# Altium schematic symbol library TarabusLibrary.SchLib: 307 symbols (part 2 of 4)
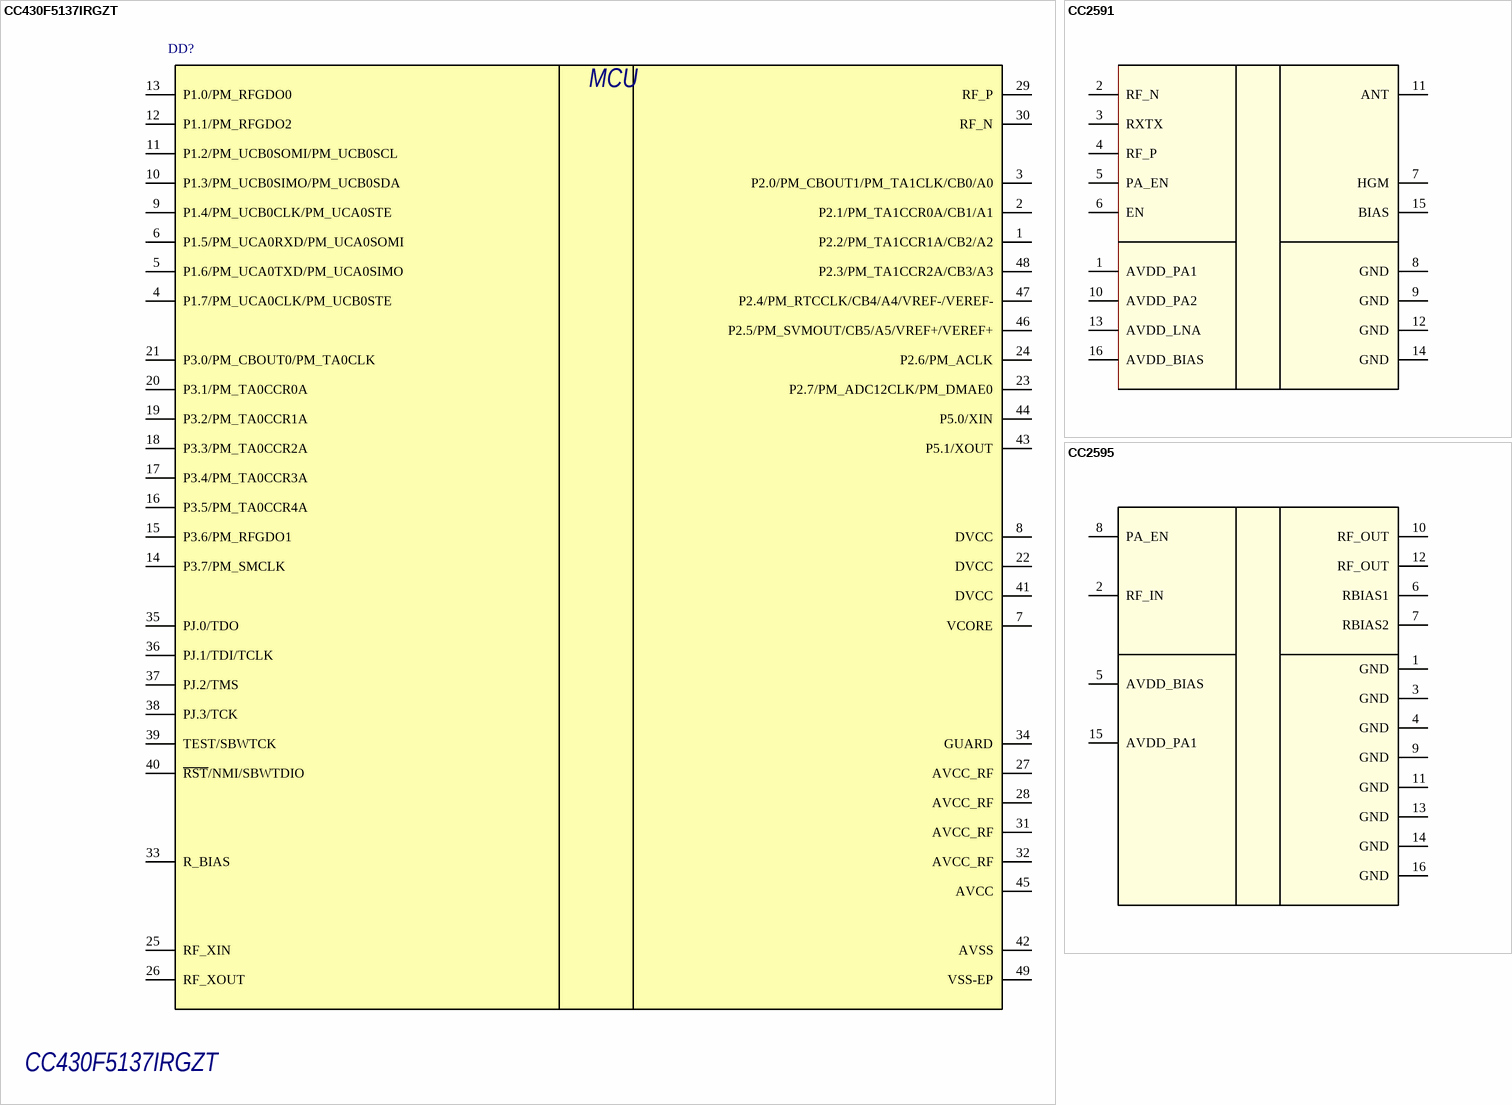
[diagram p46: symbols CC430F5137IRGZT to CC2595]

## CC2591
designator DD?
Audio Codec Control; PortComponent: True; Published: 22-Jan-2007; Publisher: Altium Limited; HelpURL: https://wiki.altium.com/display/ADOH/NanoBoard+3000+-+Audio+CODEC
footprint VQFN16
pins: 1 AVDD_PA1 (power) "Ground (0V)", 2 RF_N (power) "USB power connection", 3 RXTX (power) "Power supply (+3.3V DC) for de-coupling purposes", 4 RF_P (power) "Antenna connection 1", 5 PA_EN (power) "Antenna connection 1", 6 EN (power) "Reset for microcontroller, active low", 7 HGM (power) "Ground (0V)", 8 GND (power) "Ground (0V)", 9 GND (power) "Power supply (+3.3V DC) for de-coupling purposes", 10 AVDD_PA2 (power) "Ground (0V)", 11 ANT (power) "USB data +", 12 GND (power) "USB data -", 13 AVDD_LNA (power) "Power supply (+3.3V DC) for de-coupling purposes", 14 GND (power) "Power supply (+3.3V DC) for de-coupling purposes", 15 BIAS (power) "Power supply (+3.3V DC) for de-coupling purposes", 16 AVDD_BIAS (power) "Reference current"

## CC2595
designator DA?
2.4-GHz RF FRONT END; PortComponent: True; Published: 22-Jan-2007; Publisher: Altium Limited; HelpURL: https://wiki.altium.com/display/ADOH/NanoBoard+3000+-+Audio+CODEC
pins: 1 GND (power) "Ground (0V)", 2 RF_IN (power) "USB power connection", 3 GND (power) "Power supply (+3.3V DC) for de-coupling purposes", 4 GND (power) "Antenna connection 1", 5 AVDD_BIAS (power) "Antenna connection 1", 6 RBIAS1 (power) "Reset for microcontroller, active low", 7 RBIAS2 (power) "Ground (0V)", 8 PA_EN (power) "Ground (0V)", 9 GND (power) "Power supply (+3.3V DC) for de-coupling purposes", 10 RF_OUT (power) "Ground (0V)", 11 GND (power) "USB data +", 12 RF_OUT (power) "USB data -", 13 GND (power) "Power supply (+3.3V DC) for de-coupling purposes", 14 GND (power) "Power supply (+3.3V DC) for de-coupling purposes", 15 AVDD_PA1 (power) "Power supply (+3.3V DC) for de-coupling purposes", 16 GND (power) "Reference current"

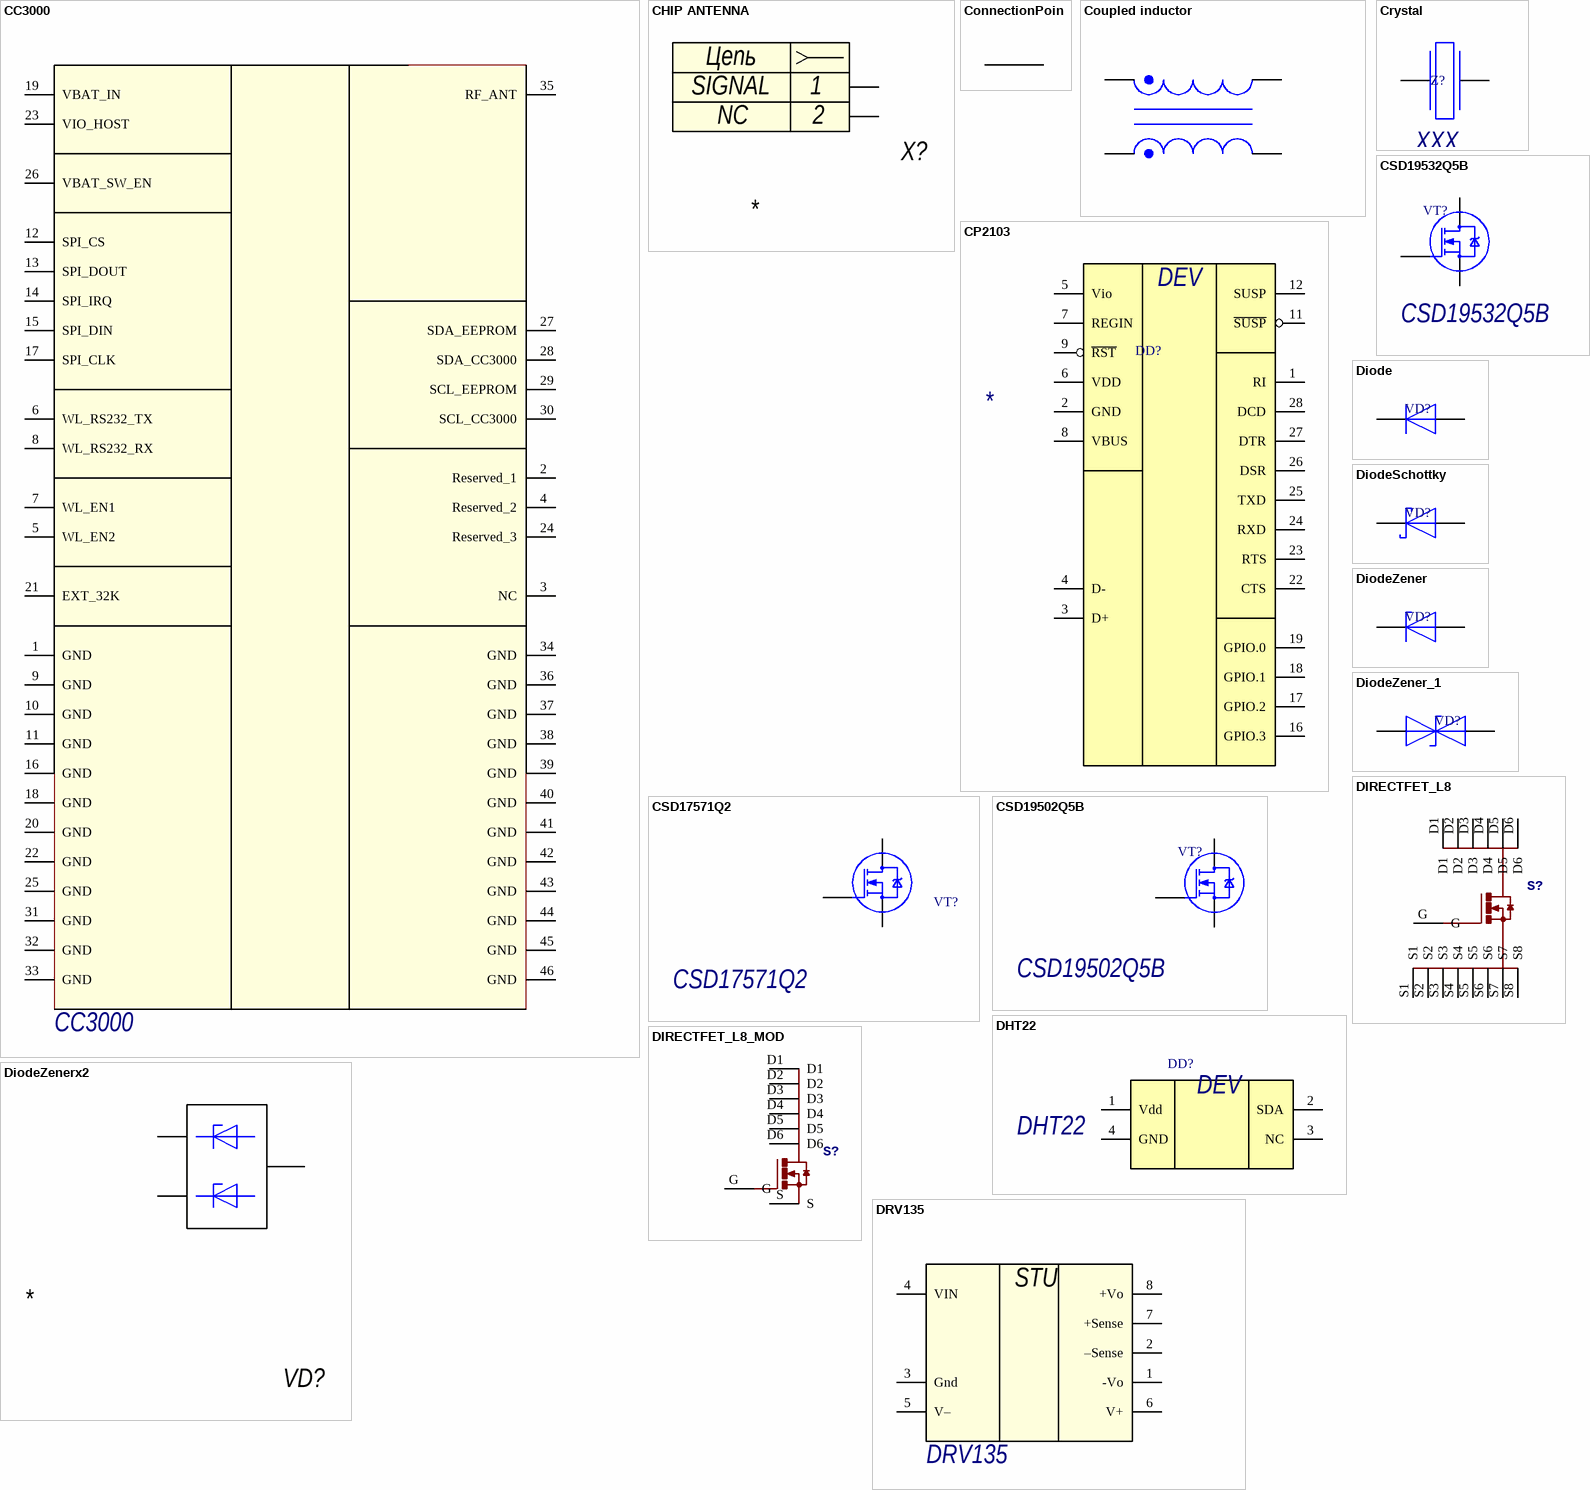
[diagram p8: symbols CC3000 to DRV135]

## CC3000
designator DD?
2.4 GHz RF SoC FOR WIRELESS DIGITAL AUDIO STREAMING; PortComponent: True; Published: 22-Jan-2007; Publisher: Altium Limited; HelpURL: https://wiki.altium.com/display/ADOH/NanoBoard+3000+-+Audio+CODEC; Name: CC3000
footprint CC3000
pins: 1 GND (power) "Ground", 2 Reserved_1 (power) "Reserved. Connect to test point.", 3 NC (power) "Not connected", 4 Reserved_2 (power) "Reserved. Connect to test point", 5 WL_EN2 (power) "Mode setting", 6 WL_RS232_TX (power) "RS232 test-mode signal (1.8-V logic). Connect to test point. Serial connection for CC3000 radio tool", 7 WL_EN1 (power) "Mode setting", 8 WL_RS232_RX (power) "RS232 test-mode signal (1.8-V logic). Connect to test point. Serial connection for CC3000 radio tool", 9 GND (power) "Ground", 10 GND (power) "Ground", 11 GND (power) "Ground", 12 SPI_CS (power) "Host interface SPI chip-select (CS)", 13 SPI_DOUT (power) "ST Host interface SPI data out", 14 SPI_IRQ (power) "Host interface SPI interrupt", 15 SPI_DIN (power) "Host interface SPI data in", 16 GND (power) "Ground", 17 SPI_CLK (power) "Host interface SPI clock", 18 GND (power) "Ground", 19 VBAT_IN (power) "Power supply input, 2.7 to 4.8 V", 20 GND (power) "Ground", 21 EXT_32K (power) "Not used. Connect to ground.", 22 GND (power) "Ground", 23 VIO_HOST (power) "VIO host supply voltage", 24 Reserved_3 (power) "Reserved. Connect to test point", 25 GND (power) "Ground", 26 VBAT_SW_EN (power) "Module enable. Connect to host GPIO.", 27 SDA_EEPROM (power) "I2C data line from EEPROM", 28 SDA_CC3000 (power) "I2C clock line from the CC3000 module", 29 SCL_EEPROM (power) "I2C clock line from EEPROM", 30 SCL_CC3000 (power) "I2C clock line from the CC3000 module", 31 GND (power) "Ground", 32 GND (power) "Ground", 33 GND (power) "Ground", 34 GND (power) "Ground", 35 RF_ANT (power) "WLAN antenna port, 50-Ω single", 36 GND (power) "Ground", 37 GND (power) "Ground", 38 GND (power) "Ground", 39 GND (power) "Ground", 40 GND (power) "Ground", 41 GND (power) "Ground", 42 GND (power) "Ground", 43 GND (power) "Ground", 44 GND (power) "Ground", 45 GND (power) "Ground", 46 GND (power)

## CHIP ANTENNA
designator X?
footprint FPRT 2.4
pins: 1, 2
text: Цепь; SIGNAL; NC

## ConnectionPoin
designator ?  (net tie, no BOM)
ConnectionPoin
footprint ConnectionPoint
pins: 1, 2

## Coupled inductor
designator L?, comment XXX
Name: Name; Value: XXX
footprint MSD1260
pins: 1, 2, 3, 4

## CP2103
designator DD?
Преобразователь интерфейсов USB-UART
footprint CP2103 (QFN, 28-Leads, Body 5,0x5,0mm (max), Pitch 0,50mm, IPC Medium Density)
pins: 1 RI, 2 GND, 3 D+, 4 D-, 5 Vio, 6 VDD, 7 REGIN, 8 VBUS, 9 ~{RST}, 11 ~{SUSP}, 12 SUSP, 16 GPIO.3, 17 GPIO.2, 18 GPIO.1, 19 GPIO.0, 22 CTS, 23 RTS, 24 RXD, 25 TXD, 26 DSR, 27 DTR, 28 DCD
text: DEV

## Crystal
designator Z?, comment XXX
Кварцевый резонатор; Value: XXX
footprint QSMD3.2x2.5_A
footprint QSMD3.2x2.5_H
footprint HC49/C
pins: 1, 2

## CSD17571Q2
designator VT?
Name: CSD17571Q2
footprint WSON-FET 6
pins: D, G, S

## CSD19502Q5B
designator VT?
Power MOSFET; Name: CSD19502Q5B
footprint PSON_8_TI
pins: D, G, S

## CSD19532Q5B
designator VT?
Power MOSFET; Name: CSD19532Q5B
footprint PSON_8_TI
pins: D, G, S

## DHT22
designator DD?
Name: DHT22
pins: 1 Vdd, 2 SDA, 3 NC, 4 GND
text: DEV

## Diode
designator VD?
Диод
footprint SOD523_A
footprint SOD523_H
pins: 1 K, 2 A

## DiodeSchottky
designator VD?
Диод Шоттки
footprint SOD123_A
footprint SOD123_H
footprint SMA_A
footprint SMA_H
footprint SOD523_A
footprint SOD523_H
pins: 1 K, 2 A

## DiodeZener
designator VD?
Стабилитрон
footprint SMA_A
footprint SMA_H
footprint SOD523_A
footprint SOD523_H
footprint SOT23-2_A
footprint SOT23-2_H
pins: 1 K, 2 A

## DiodeZener_1
designator VD?
Стабилитрон
footprint SMA_A
footprint SMA_H
footprint SOD523_A
footprint SOD523_H
footprint SOT23-2_A
footprint SOT23-2_H
footprint КД-7Е
pins: 1 K, 2 A

## DiodeZenerx2
designator VD?
Name: *
footprint SOT23-3_H
footprint SOT23-3_A
pins: 1, 2, 3

## DIRECTFET_L8
designator S?
footprint DIRECTFET_L8
pins: D1, D2, D3, D4, D5, D6, G, S1, S2, S3, S4, S5, S6, S7, S8

## DIRECTFET_L8_MOD
designator S?
footprint DIRECTFET_L8_MOD
pins: D1, D2, D3, D4, D5, D6, G, S

## DRV135
designator DD?
20 MHz MSP430 SoC with RF Core with 32 KB Flash, 4096 B SRAM and 30 GPIOs, -40 to 85 degC, 48-pin QFN (RGZ), Green (RoHS & no Sb/Br); Name: DRV135
footprint SO8_H
pins: 1 -Vo, 2 –Sense, 3 Gnd, 4 VIN, 5 V–, 6 V+, 7 +Sense, 8 +Vo
text: STU

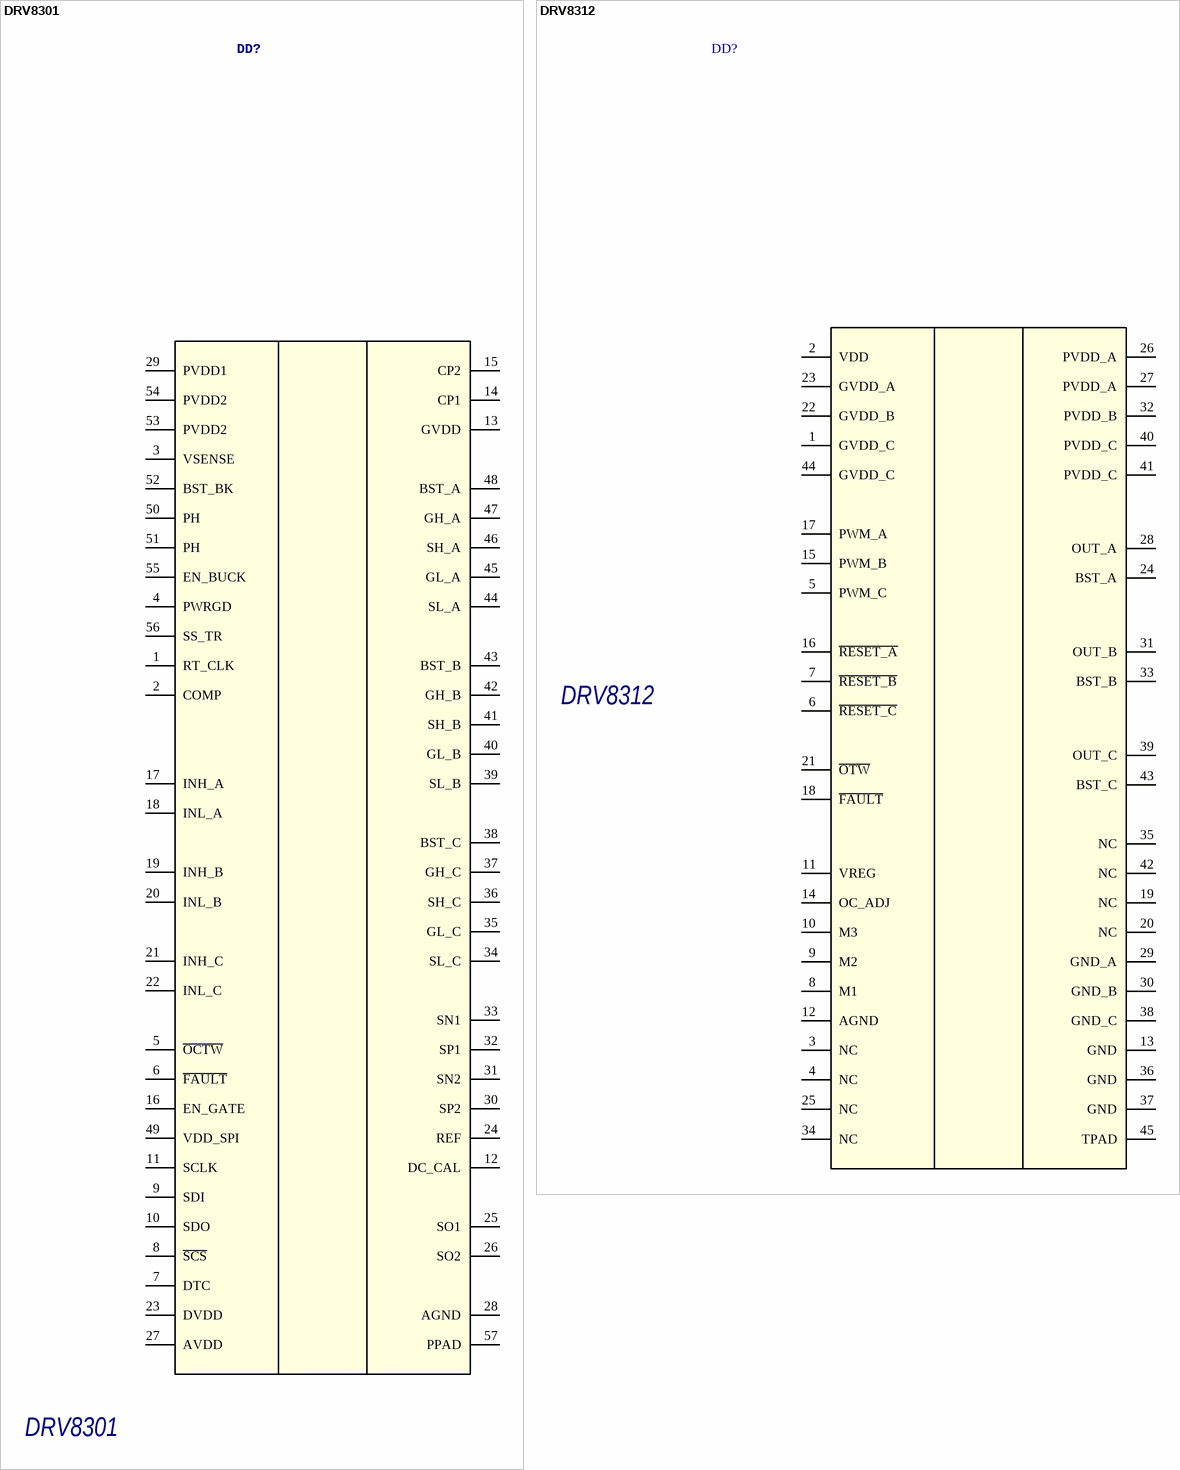
[diagram p9: symbols DRV8301 to DRV8312]

## DRV8301
designator DD?
3 Phase Integrated Motor Gate Driver by Texas Instruments; Name: DRV8301
footprint TSSOP56P
pins: 1 RT_CLK (power), 2 COMP (power), 3 VSENSE (power), 4 PWRGD (power), 5 ~{OCTW} (power), 6 ~{FAULT} (power), 7 DTC (power), 8 ~{SCS} (power), 9 SDI (power), 10 SDO (power), 11 SCLK (power), 12 DC_CAL (power), 13 GVDD (power), 14 CP1 (power), 15 CP2 (power), 16 EN_GATE (power), 17 INH_A (power), 18 INL_A (power), 19 INH_B (power), 20 INL_B (power), 21 INH_C (power), 22 INL_C (power), 23 DVDD (power), 24 REF (power), 25 SO1 (power), 26 SO2 (power), 27 AVDD (power), 28 AGND (power), 29 PVDD1 (power), 30 SP2 (power), 31 SN2 (power), 32 SP1 (power), 33 SN1 (power), 34 SL_C (power), 35 GL_C (power), 36 SH_C (power), 37 GH_C (power), 38 BST_C (power), 39 SL_B (power), 40 GL_B (power), 41 SH_B (power), 42 GH_B (power), 43 BST_B (power), 44 SL_A (power), 45 GL_A (power), 46 SH_A (power), 47 GH_A (power), 48 BST_A (power), 49 VDD_SPI (power), 50 PH (power), 51 PH (power), 52 BST_BK (power), 53 PVDD2 (power), 54 PVDD2 (power), 55 EN_BUCK (power), 56 SS_TR (power), 57 PPAD (power)

## DRV8312
designator DD?
3 Phase Integrated Motor Driver by Texas Instruments; Supplier 1: Digi-Key; Supplier Part Number 1: 296-27518-5-ND
footprint DDW44_M (TSOP, 44-Leads, Body 14x6.1mm, Pitch 0.635mm, Thermal Pad 8.3x4.2mm, IPC Low Density)
pins: 1 GVDD_C, 2 VDD, 3 NC, 4 NC, 5 PWM_C, 6 ~{RESET_C}, 7 ~{RESET_B}, 8 M1, 9 M2, 10 M3, 11 VREG, 12 AGND, 13 GND, 14 OC_ADJ, 15 PWM_B, 16 ~{RESET_A}, 17 PWM_A, 18 ~{FAULT}, 19 NC, 20 NC, 21 ~{OTW}, 22 GVDD_B, 23 GVDD_A, 24 BST_A, 25 NC, 26 PVDD_A, 27 PVDD_A, 28 OUT_A, 29 GND_A, 30 GND_B, 31 OUT_B, 32 PVDD_B, 33 BST_B, 34 NC, 35 NC, 36 GND, 37 GND, 38 GND_C, 39 OUT_C, 40 PVDD_C, 41 PVDD_C, 42 NC, 43 BST_C, 44 GVDD_C, 45 TPAD

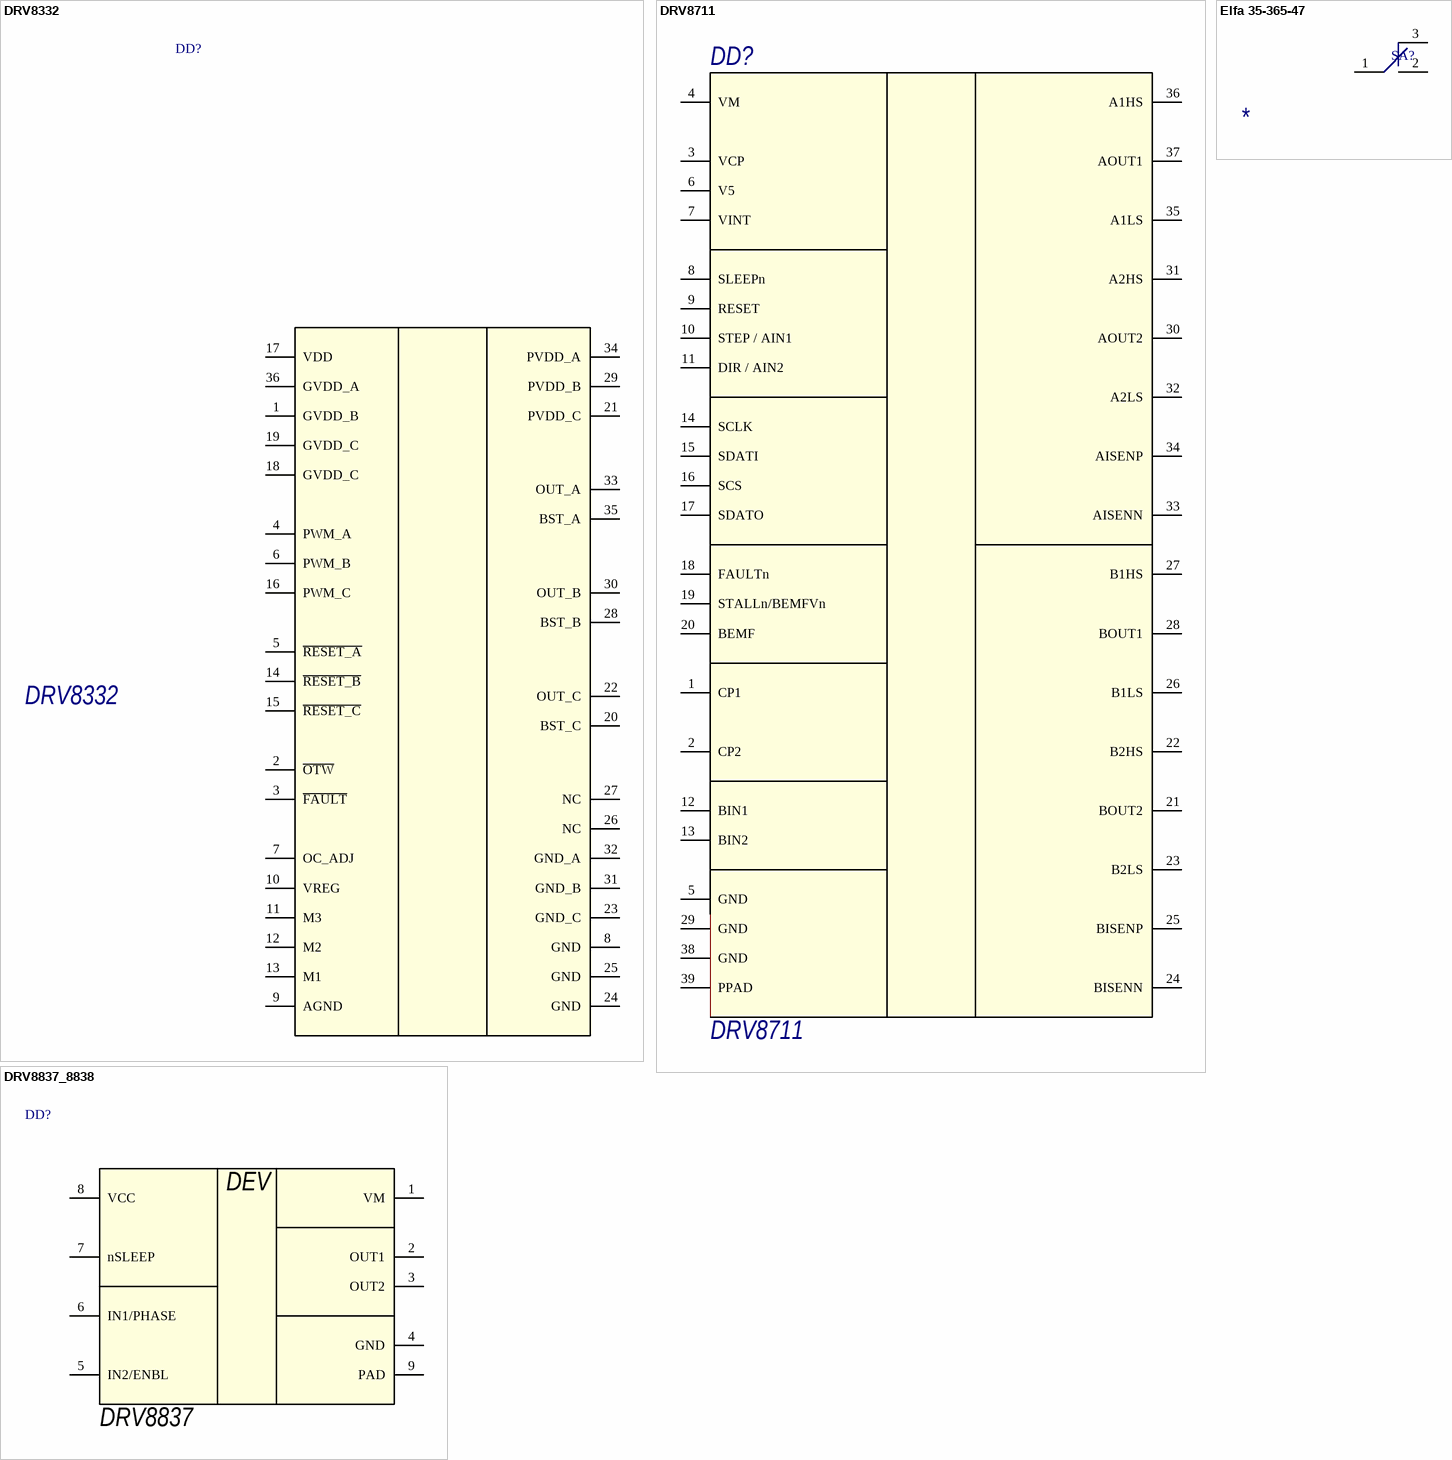
[diagram p10: symbols DRV8332 to Elfa 35-365-47]

## DRV8332
designator DD?
3 Phase Integrated Motor Driver by Texas Instruments; Supplier 1: Digi-Key; Supplier Part Number 1: 296-27518-5-ND
footprint SOP36n
footprint SOP36N_15
footprint SOP36N_WPaV
footprint SOP36N_WV
pins: 1 GVDD_B, 2 ~{OTW}, 3 ~{FAULT}, 4 PWM_A, 5 ~{RESET_A}, 6 PWM_B, 7 OC_ADJ, 8 GND, 9 AGND, 10 VREG, 11 M3, 12 M2, 13 M1, 14 ~{RESET_B}, 15 ~{RESET_C}, 16 PWM_C, 17 VDD, 18 GVDD_C, 19 GVDD_C, 20 BST_C, 21 PVDD_C, 22 OUT_C, 23 GND_C, 24 GND, 25 GND, 26 NC, 27 NC, 28 BST_B, 29 PVDD_B, 30 OUT_B, 31 GND_B, 32 GND_A, 33 OUT_A, 34 PVDD_A, 35 BST_A, 36 GVDD_A

## DRV8711
designator DD?
Stepper Motor Controller IC; Value: Value; Name: DRV8711
pins: 1 CP1, 2 CP2, 3 VCP, 4 VM, 5 GND, 6 V5, 7 VINT, 8 SLEEPn, 9 RESET, 10 STEP / AIN1, 11 DIR / AIN2, 12 BIN1, 13 BIN2, 14 SCLK, 15 SDATI, 16 SCS, 17 SDATO, 18 FAULTn, 19 STALLn/BEMFVn , 20 BEMF, 21 BOUT2, 22 B2HS, 23 B2LS, 24 BISENN, 25 BISENP, 26 B1LS, 27 B1HS, 28 BOUT1, 29 GND, 30 AOUT2, 31 A2HS, 32 A2LS, 33 AISENN, 34 AISENP, 35 A1LS, 36 A1HS, 37 AOUT1, 38 GND, 39 PPAD

## DRV8837_8838
designator DD?, comment DRV8837
LOW VOLTAGE H-BRIDGE IC; Manufacturer: Texas Instruments; MFG Part Number: Supplied; DigiKey Part #: Supplied; Size: 8QFN; Supplier 1: Digi-Key; Supplier Part Number 1: 296-34806-2-ND; Value: DRV8837
footprint PWSON8_A
footprint PWSON8_H
pins: 1 VM, 2 OUT1, 3 OUT2, 4 GND, 5 IN2/ENBL, 6 IN1/PHASE, 7 nSLEEP, 8 VCC, 9 PAD
text: DEV

## Elfa 35-365-47
designator SA?
Ползунковый переключатель
footprint Elfa 35-365-47
pins: 1, 2, 3

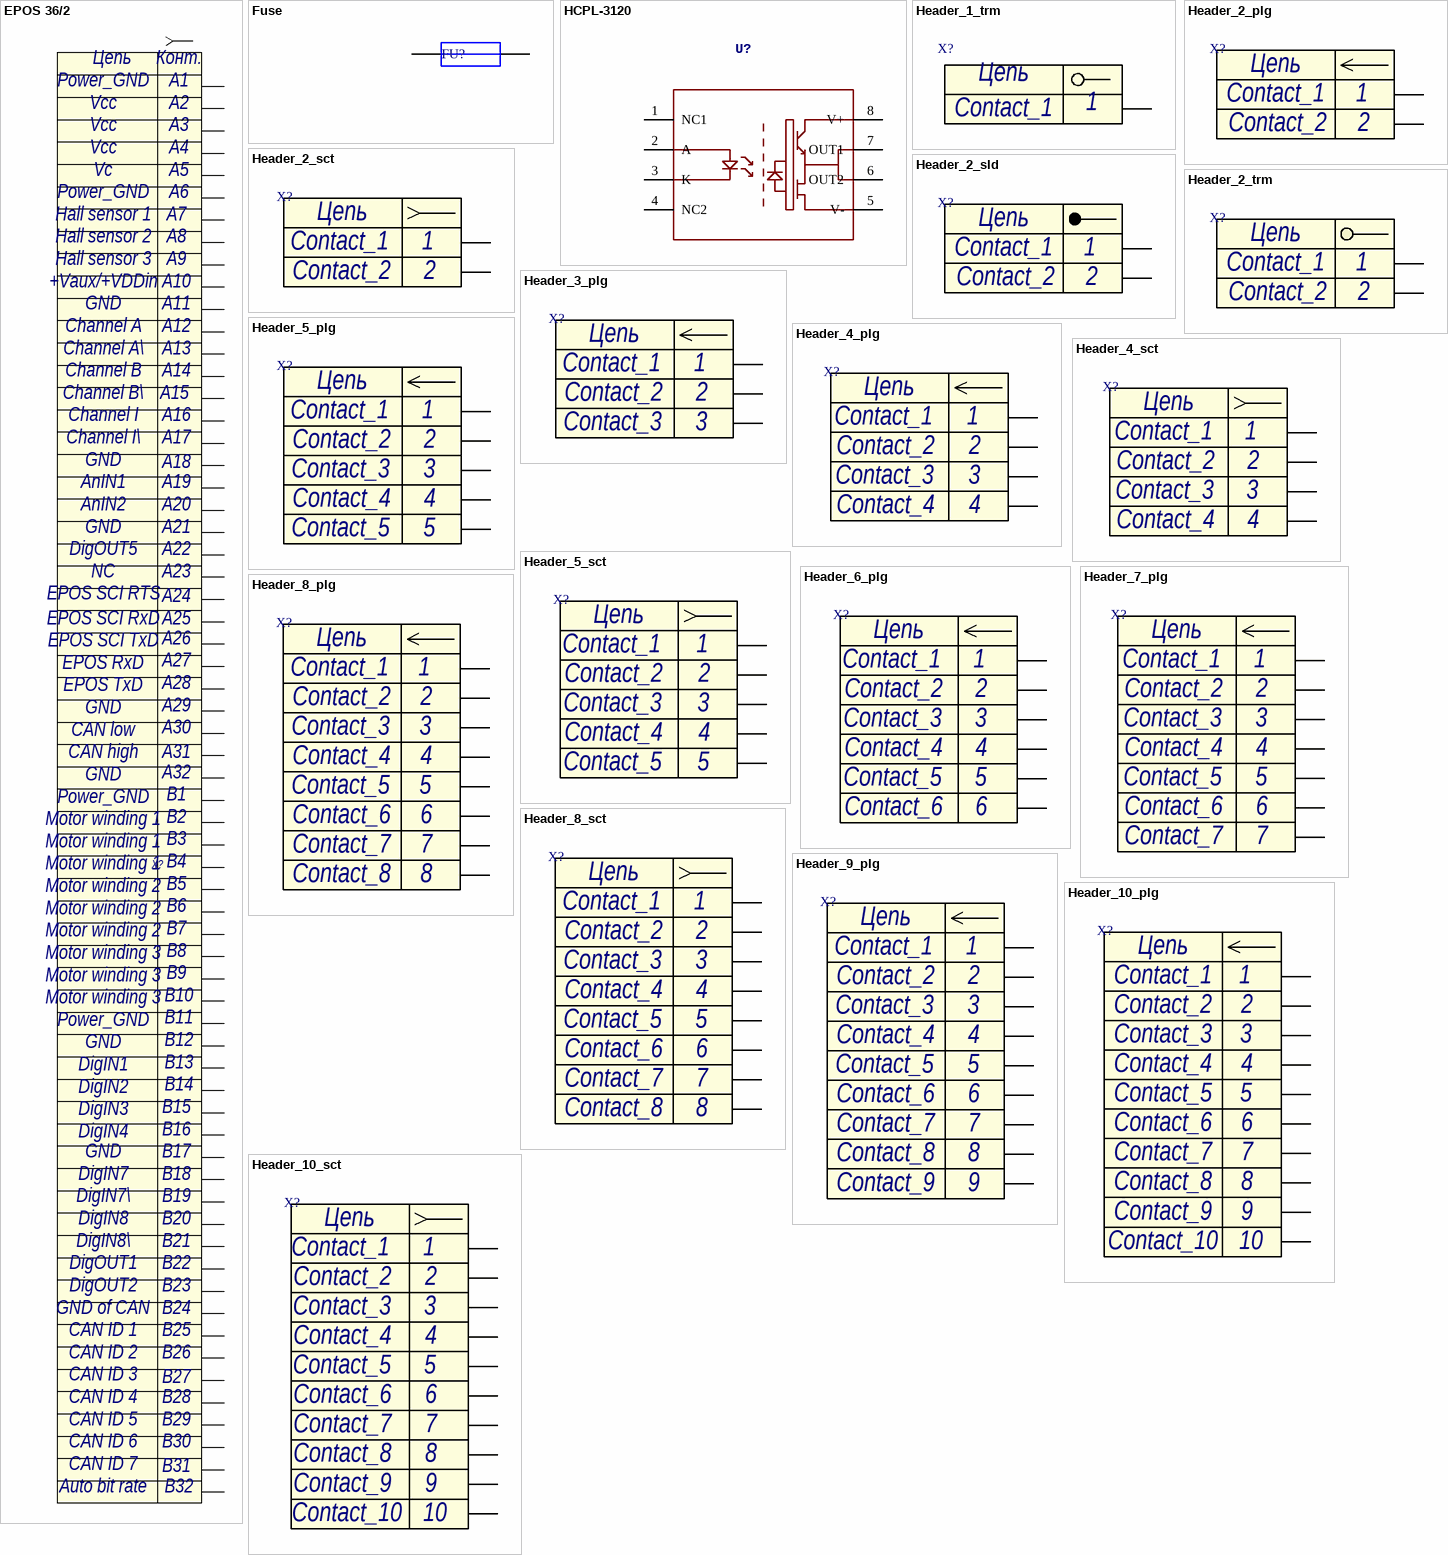
[diagram p11: symbols EPOS 36/2 to Header_10_sct]

## EPOS 36/2
designator X?
PCI 64; Contact_1: Power_GND; Contact_2: Vcc; Contact_36: Motor winding 1; Contact_39: Motor winding 2; Contact_42: Motor winding 3; Contact_49: GND; Contact_50: DigIN7; Contact_51: DigIN7\; Contact_52: DigIN8; Contact_53: DigIN8\; Contact_54: DigOUT1; Contact_55: DigOUT2; Contact_56: GND of CAN; Contact_57: CAN ID 1; Contact_58: CAN ID 2; Contact_59: CAN ID 3; Contact_60: CAN ID 4; Contact_61: CAN ID 5; Contact_62: CAN ID 6; Contact_63: CAN ID 7; Contact_64: Auto bit rate; Contact_45: DigIN1; Contact_46: DigIN2; Contact_47: DigIN3; Contact_48: DigIN4; Contact_30: CAN low; Contact_31: CAN high; Contact_19: AnIN1; Contact_20: AnIN2; Contact_22: DigOUT5; Contact_23: NC; Contact_24: EPOS SCI RTS; Contact_25: EPOS SCI RxD; Contact_26: EPOS SCI TxD; Contact_27: EPOS RxD; Contact_28: EPOS TxD; Contact_17: Channel I\; Contact_10: +Vaux/+VDDin; Contact_12: Channel A; Contact_13: Channel A\; Contact_14: Channel B; Contact_15: Channel B\; Contact_16: Channel I; Contact_5: Vc; Contact_7: Hall sensor 1; Contact_8: Hall sensor 2; Contact_9: Hall sensor 3; Contact_3: Vcc; Contact_35: Motor winding 1; Contact_38: Motor winding 2; Contact_41: Motor winding 3; Contact_43: Power_GND; Contact_44: GND; Contact_32: GND; Contact_33: Power_GND; Contact_34: Motor winding 1; Contact_37: Motor winding 2; Contact_40: Motor winding 3; Contact_29: GND; Contact_18: GND; Contact_21: GND; Contact_11: GND; Contact_6: Power_GND; Contact_4: Vcc
footprint PCI 64
pins: A1 1, A2 2, A3 3, A4 4, A5 5, A6 6, A7 5, A8 5, A9 5, A10 5, A11 5, A12 5, A13 5, A14 5, A15 15, A16 5, A17 5, A18 5, A19 5, A20 5, A21 5, A22 5, A23 5, A24 5, A25 5, A26, A27 5, A28 5, A29 5, A30 5, A31 5, A32 5, B1 5, B2 5, B3 1, B4 2, B5 3, B6 4, B7 5, B8 6, B9 5, B10 5, B11 5, B12 5, B13 5, B14 5, B15 5, B16 5, B17 15, B18 5, B19 5, B20 5, B21 5, B22 5, B23 5, B24 5, B25 5, B26 5, B27 5, B28 A26, B29 5, B30 5, B31 5, B32 5
text: Цепь; Конт.

## Fuse
designator FU?
Предохранитель; Value: XXX
footprint R0805_A
footprint R0805_H
footprint R0603_A
footprint R0402_H
pins: 1, 2

## HCPL-3120
designator U?
footprint 8DIP
pins: 1 NC1, 2 A, 3 K, 4 NC2, 5 V-, 6 OUT2, 7 OUT1, 8 V+

## Header_1_trm
designator X?
Разъем - 1 конт. клемма; Contact_1: Contact_1
footprint 0.25-STANDOFF
footprint 0.8_1.4x1.4_square
pins: 1
text: Цепь

## Header_2_plg
designator X?
Разъем - 2 конт. вилка; Contact_1: Contact_1; Contact_2: Contact_2
footprint MOLEX_picoblade_2
footprint MW-2M
footprint MW-2MR
footprint PWL-2R
footprint Terminal_2.54-2
footprint PBS2-2
footprint 2_PIN
footprint 300-021-12
footprint 308-021-14
pins: 1, 2
text: Цепь

## Header_2_sct
designator X?
Разъем - 2 конт. розетка; Contact_1: Contact_1; Contact_2: Contact_2
footprint MOLEX_picoblade_2
footprint MW-2M
footprint MW-2MR
footprint PWL-2R
footprint Terminal_2.54-2
footprint PBS2-2
footprint SMA-JR
footprint Nokia_charge
footprint 2_PIN
footprint 300-021-12
pins: 1, 2
text: Цепь

## Header_2_sld
designator X?
Разъем - 2 конт. пайка; Contact_1: Contact_1; Contact_2: Contact_2
footprint MOLEX_picoblade_2
footprint MW-2M
footprint MW-2MR
footprint PWL-2R
footprint Terminal_2.54-2
footprint PBS2-2
footprint 2_PIN
footprint 300-021-12
pins: 1, 2
text: Цепь

## Header_2_trm
designator X?
Разъем - 2 конт. клемма; Contact_1: Contact_1; Contact_2: Contact_2
footprint MOLEX_picoblade_2
footprint MW-2M
footprint MW-2MR
footprint PWL-2R
footprint Terminal_2.54-2
footprint PBS2-2
footprint 2_PIN
footprint 300-021-12
pins: 1, 2
text: Цепь

## Header_3_plg
designator X?
Разъем - 3 конт. вилка; Contact_1: Contact_1; Contact_2: Contact_2; Contact_3: Contact_3
footprint PLS2-3
footprint MOLEX_picoblade_3
footprint MOLEX_picoblade_3R
footprint PWL-3R
footprint Terminal_2.54-3
footprint 3_PIN
footprint 300-031-12
pins: 1, 2, 3
text: Цепь

## Header_4_plg
designator X?
Разъем - 4 конт. вилка; Contact_1: Contact_1; Contact_2: Contact_2; Contact_3: Contact_3; Contact_4: Contact_4
footprint MOLEX_picoblade_4
footprint MOLEX_picoblade_4R
footprint MW-4M
footprint MW-4MR
footprint 300-041-12
pins: 1, 2, 3, 4
text: Цепь

## Header_4_sct
designator X?
Разъем - 4 конт. розетка; Contact_1: Contact_1; Contact_2: Contact_2; Contact_3: Contact_3; Contact_4: Contact_4
footprint MOLEX_picoblade_4
footprint MOLEX_picoblade_4R
footprint MW-4MR
footprint MW-4M
pins: 1, 2, 3, 4
text: Цепь

## Header_5_plg
designator X?
Разъем - 5 конт. вилка; Contact_1: Contact_1; Contact_2: Contact_2; Contact_3: Contact_3; Contact_4: Contact_4; Contact_5: Contact_5
footprint MOLEX_picoblade_5
footprint MW-5M
footprint MW-5MR
footprint PLS2-5
footprint USB-Mini DIP
footprint USB-Mini
footprint 5_PIN
pins: 1, 2, 3, 4, 5
text: Цепь

## Header_5_sct
designator X?
Разъем - 5 конт. розетка; Contact_1: Contact_1; Contact_2: Contact_2; Contact_3: Contact_3; Contact_4: Contact_4; Contact_5: Contact_5
footprint MOLEX_picoblade_5
footprint MW-5M
footprint MW-5MR
footprint 5_PIN
pins: 1, 2, 3, 4, 5
text: Цепь

## Header_6_plg
designator X?
Разъем - 6 конт. вилка; Contact_1: Contact_1; Contact_2: Contact_2; Contact_3: Contact_3; Contact_4: Contact_4; Contact_5: Contact_5; Contact_6: Contact_6
footprint MOLEX_picoblade_6
footprint MW-6M
footprint 300-061-12
pins: 1, 2, 3, 4, 5, 6
text: Цепь

## Header_7_plg
designator X?
Разъем - 7 конт. вилка; Contact_1: Contact_1; Contact_2: Contact_2; Contact_3: Contact_3; Contact_4: Contact_4; Contact_5: Contact_5; Contact_6: Contact_6; Contact_7: Contact_7
footprint MOLEX_picoblade_7
pins: 1, 2, 3, 4, 5, 6, 7
text: Цепь

## Header_8_plg
designator X?
Разъем - 8 конт. вилка; Contact_1: Contact_1; Contact_2: Contact_2; Contact_3: Contact_3; Contact_4: Contact_4; Contact_5: Contact_5; Contact_6: Contact_6; Contact_7: Contact_7; Contact_8: Contact_8
footprint MOLEX_picoblade_8
pins: 1, 2, 3, 4, 5, 6, 7, 8
text: Цепь

## Header_8_sct
designator X?
Разъем - 8 конт. розетка; Contact_1: Contact_1; Contact_2: Contact_2; Contact_3: Contact_3; Contact_4: Contact_4; Contact_5: Contact_5; Contact_6: Contact_6; Contact_7: Contact_7; Contact_8: Contact_8
footprint MOLEX_picoblade_8
pins: 1, 2, 3, 4, 5, 6, 7, 8
text: Цепь

## Header_9_plg
designator X?
Разъем - 9 конт. вилка; Contact_1: Contact_1; Contact_2: Contact_2; Contact_3: Contact_3; Contact_4: Contact_4; Contact_5: Contact_5; Contact_6: Contact_6; Contact_7: Contact_7; Contact_8: Contact_8; Contact_9: Contact_9
pins: 1, 2, 3, 4, 5, 6, 7, 8, 9
text: Цепь

## Header_10_plg
designator X?
Разъем - 10 конт. вилка; Contact_1: Contact_1; Contact_2: Contact_2; Contact_3: Contact_3; Contact_4: Contact_4; Contact_5: Contact_5; Contact_6: Contact_6; Contact_7: Contact_7; Contact_8: Contact_8; Contact_9: Contact_9; Contact_10: Contact_10
footprint PLLD1.27-10S (PLDD-1.27)
pins: 1, 2, 3, 4, 5, 6, 7, 8, 9, 10
text: Цепь

## Header_10_sct
designator X?
Разъем - 10 конт. розетка; Contact_1: Contact_1; Contact_2: Contact_2; Contact_3: Contact_3; Contact_4: Contact_4; Contact_5: Contact_5; Contact_6: Contact_6; Contact_7: Contact_7; Contact_8: Contact_8; Contact_9: Contact_9; Contact_10: Contact_10
footprint MOLEX_52207-1085
footprint PBS2-10
footprint PBS2-10S
pins: 1, 2, 3, 4, 5, 6, 7, 8, 9, 10
text: Цепь

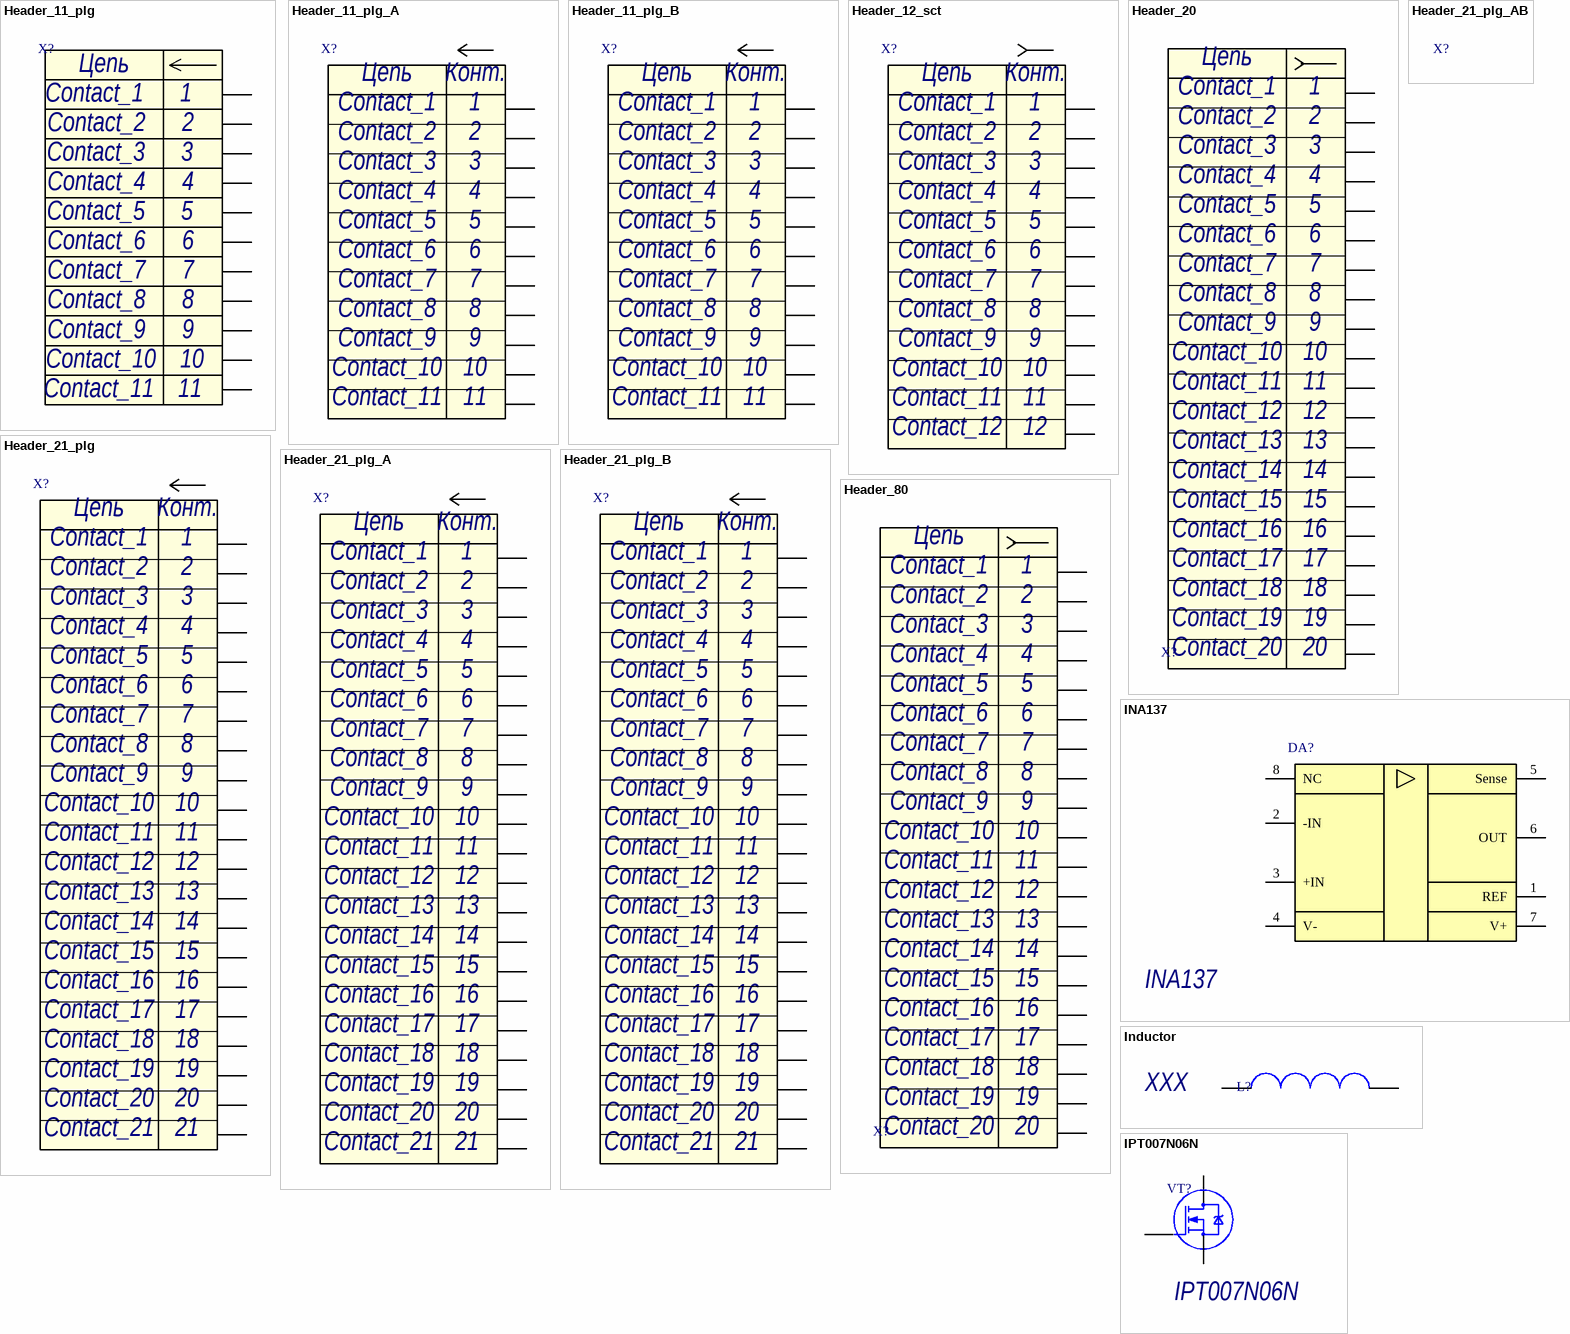
[diagram p12: symbols Header_11_plg to IPT007N06N]

## Header_11_plg
designator X?
Разъем - 11 конт. вилка; Contact_1: Contact_1; Contact_2: Contact_2; Contact_3: Contact_3; Contact_4: Contact_4; Contact_5: Contact_5; Contact_6: Contact_6; Contact_7: Contact_7; Contact_8: Contact_8; Contact_9: Contact_9; Contact_10: Contact_10; Contact_11: Contact_11
pins: 1, 2, 3, 4, 5, 6, 7, 8, 9, 10, 11
text: Цепь

## Header_11_plg_A
designator X?
Разъем - 11 конт. вилка; Contact_1: Contact_1; Contact_2: Contact_2; Contact_3: Contact_3; Contact_4: Contact_4; Contact_5: Contact_5; Contact_6: Contact_6; Contact_7: Contact_7; Contact_8: Contact_8; Contact_9: Contact_9; Contact_10: Contact_10; Contact_11: Contact_11
pins: A1 1, A2 2, A3 3, A4 4, A5 5, A6 6, A7 7, A8 8, A9 9, A10 10, A11 11
text: Цепь; Конт.

## Header_11_plg_B
designator X?
Разъем - 11 конт. вилка; Contact_1: Contact_1; Contact_2: Contact_2; Contact_3: Contact_3; Contact_4: Contact_4; Contact_5: Contact_5; Contact_6: Contact_6; Contact_7: Contact_7; Contact_8: Contact_8; Contact_9: Contact_9; Contact_10: Contact_10; Contact_11: Contact_11
pins: B1 1, B2 2, B3 3, B4 4, B5 5, B6 6, B7 7, B8 8, B9 9, B10 10, B11 11
text: Цепь; Конт.

## Header_12_sct
designator X?
Разъем - 12 конт. розетка; Contact_1: Contact_1; Contact_2: Contact_2; Contact_3: Contact_3; Contact_4: Contact_4; Contact_5: Contact_5; Contact_6: Contact_6; Contact_7: Contact_7; Contact_8: Contact_8; Contact_9: Contact_9; Contact_10: Contact_10; Contact_11: Contact_11; Contact_12: Contact_12
footprint PBS2-12
footprint PBS2-12S
pins: 1, 2, 3, 4, 5, 6, 7, 8, 9, 10, 11, 12
text: Цепь; Конт.

## Header_20
designator X?
Разъем - 20 конт. мамка; Contact_1: Contact_1; Contact_2: Contact_2; Contact_3: Contact_3; Contact_4: Contact_4; Contact_5: Contact_5; Contact_6: Contact_6; Contact_7: Contact_7; Contact_8: Contact_8; Contact_9: Contact_9; Contact_10: Contact_10; Contact_11: Contact_11; Contact_12: Contact_12; Contact_13: Contact_13; Contact_14: Contact_14; Contact_15: Contact_15; Contact_16: Contact_16; Contact_17: Contact_17; Contact_18: Contact_18; Contact_19: Contact_19; Contact_20: Contact_20
footprint M50-430 Socket 2x10
footprint M50-490 Socket 2x10
pins: 1, 2, 3, 4, 5, 6, 7, 8, 9, 10, 11, 12, 13, 14, 15, 16, 17, 18, 19, 20
text: Цепь

## Header_21_plg
designator X?
Разъем - 21 конт. вилка; Contact_1: Contact_1; Contact_2: Contact_2; Contact_3: Contact_3; Contact_4: Contact_4; Contact_5: Contact_5; Contact_6: Contact_6; Contact_7: Contact_7; Contact_8: Contact_8; Contact_9: Contact_9; Contact_10: Contact_10; Contact_11: Contact_11; Contact_12: Contact_12; Contact_13: Contact_13; Contact_14: Contact_14; Contact_15: Contact_15; Contact_16: Contact_16; Contact_17: Contact_17; Contact_18: Contact_18; Contact_19: Contact_19; Contact_20: Contact_20; Contact_21: Contact_21
footprint PCI_21
pins: 1, 2, 3, 4, 5, 6, 7, 8, 9, 10, 11, 12, 13, 14, 15, 16, 17, 18, 19, 20, 21
text: Цепь; Конт.

## Header_21_plg_A
designator X?
Разъем - 21 конт. вилка; Contact_1: Contact_1; Contact_2: Contact_2; Contact_3: Contact_3; Contact_4: Contact_4; Contact_5: Contact_5; Contact_6: Contact_6; Contact_7: Contact_7; Contact_8: Contact_8; Contact_9: Contact_9; Contact_10: Contact_10; Contact_11: Contact_11; Contact_12: Contact_12; Contact_13: Contact_13; Contact_14: Contact_14; Contact_15: Contact_15; Contact_16: Contact_16; Contact_17: Contact_17; Contact_18: Contact_18; Contact_19: Contact_19; Contact_20: Contact_20; Contact_21: Contact_21
footprint PCI_21
pins: A1 1, A2 2, A3 3, A4 4, A5 5, A6 6, A7 7, A8 8, A9 9, A10 10, A11 11, A12 12, A13 13, A14 14, A15 15, A16 16, A17 17, A18 18, A19 19, A20 20, A21 21
text: Цепь; Конт.

## Header_21_plg_AB
designator X?
Разъем - 21 конт. вилка; Contact_1: Contact_1; Contact_2: Contact_2; Contact_3: Contact_3; Contact_4: Contact_4; Contact_5: Contact_5; Contact_6: Contact_6; Contact_7: Contact_7; Contact_8: Contact_8; Contact_9: Contact_9; Contact_10: Contact_10; Contact_11: Contact_11; Contact_12: Contact_12; Contact_13: Contact_13; Contact_14: Contact_14; Contact_15: Contact_15; Contact_16: Contact_16; Contact_17: Contact_17; Contact_18: Contact_18; Contact_19: Contact_19; Contact_20: Contact_20; Contact_21: Contact_21
footprint PCI_32

## Header_21_plg_B
designator X?
Разъем - 21 конт. вилка; Contact_1: Contact_1; Contact_2: Contact_2; Contact_3: Contact_3; Contact_4: Contact_4; Contact_5: Contact_5; Contact_6: Contact_6; Contact_7: Contact_7; Contact_8: Contact_8; Contact_9: Contact_9; Contact_10: Contact_10; Contact_11: Contact_11; Contact_12: Contact_12; Contact_13: Contact_13; Contact_14: Contact_14; Contact_15: Contact_15; Contact_16: Contact_16; Contact_17: Contact_17; Contact_18: Contact_18; Contact_19: Contact_19; Contact_20: Contact_20; Contact_21: Contact_21
footprint PCI_21
pins: B1 1, B2 2, B3 3, B4 4, B5 5, B6 6, B7 7, B8 8, B9 9, B10 10, B11 11, B12 12, B13 13, B14 14, B15 15, B16 16, B17 17, B18 18, B19 19, B20 20, B21 21
text: Цепь; Конт.

## Header_80
designator X?
Разъем - 80 конт. мамка; Contact_1: Contact_1; Contact_2: Contact_2; Contact_3: Contact_3; Contact_4: Contact_4; Contact_5: Contact_5; Contact_6: Contact_6; Contact_7: Contact_7; Contact_8: Contact_8; Contact_9: Contact_9; Contact_10: Contact_10; Contact_11: Contact_11; Contact_12: Contact_12; Contact_13: Contact_13; Contact_14: Contact_14; Contact_15: Contact_15; Contact_16: Contact_16; Contact_17: Contact_17; Contact_18: Contact_18; Contact_19: Contact_19; Contact_20: Contact_20
footprint M50-430 Socket 2x10
footprint M50-490 Socket 2x10
pins: 1, 2, 3, 4, 5, 6, 7, 8, 9, 10, 11, 12, 13, 14, 15, 16, 17, 18, 19, 20
text: Цепь

## INA137
designator DA?
audio receiver; Name: INA137
footprint SO8_H
footprint SO8_A
pins: 1 REF, 2 -IN, 3 +IN, 4 V-, 5 Sense, 6 OUT, 7 V+, 8 NC

## Inductor
designator L?, comment XXX
Катушка индуктивности; Value: XXX
footprint L0603_A
footprint L0603_H
footprint CDRH4D28C_A
footprint CDRH4D28C_H
footprint SRU1048_A
footprint SRU1048_H
footprint RCR-875D
footprint CDRH3D16
footprint L0402_A
footprint CDRH2D18/HP
footprint L0805_A
footprint L1210_A
footprint XFL4020
pins: 1, 2

## IPT007N06N
designator VT?
HEXFET Power MOSFETs Discrete N-Channel; Name: IPT007N06N
footprint PG-HSOF-8-1
pins: 1 G, 2 S, 3 S, 4 S, 5 S, 6 S, 7 S, 8 S, 9 D

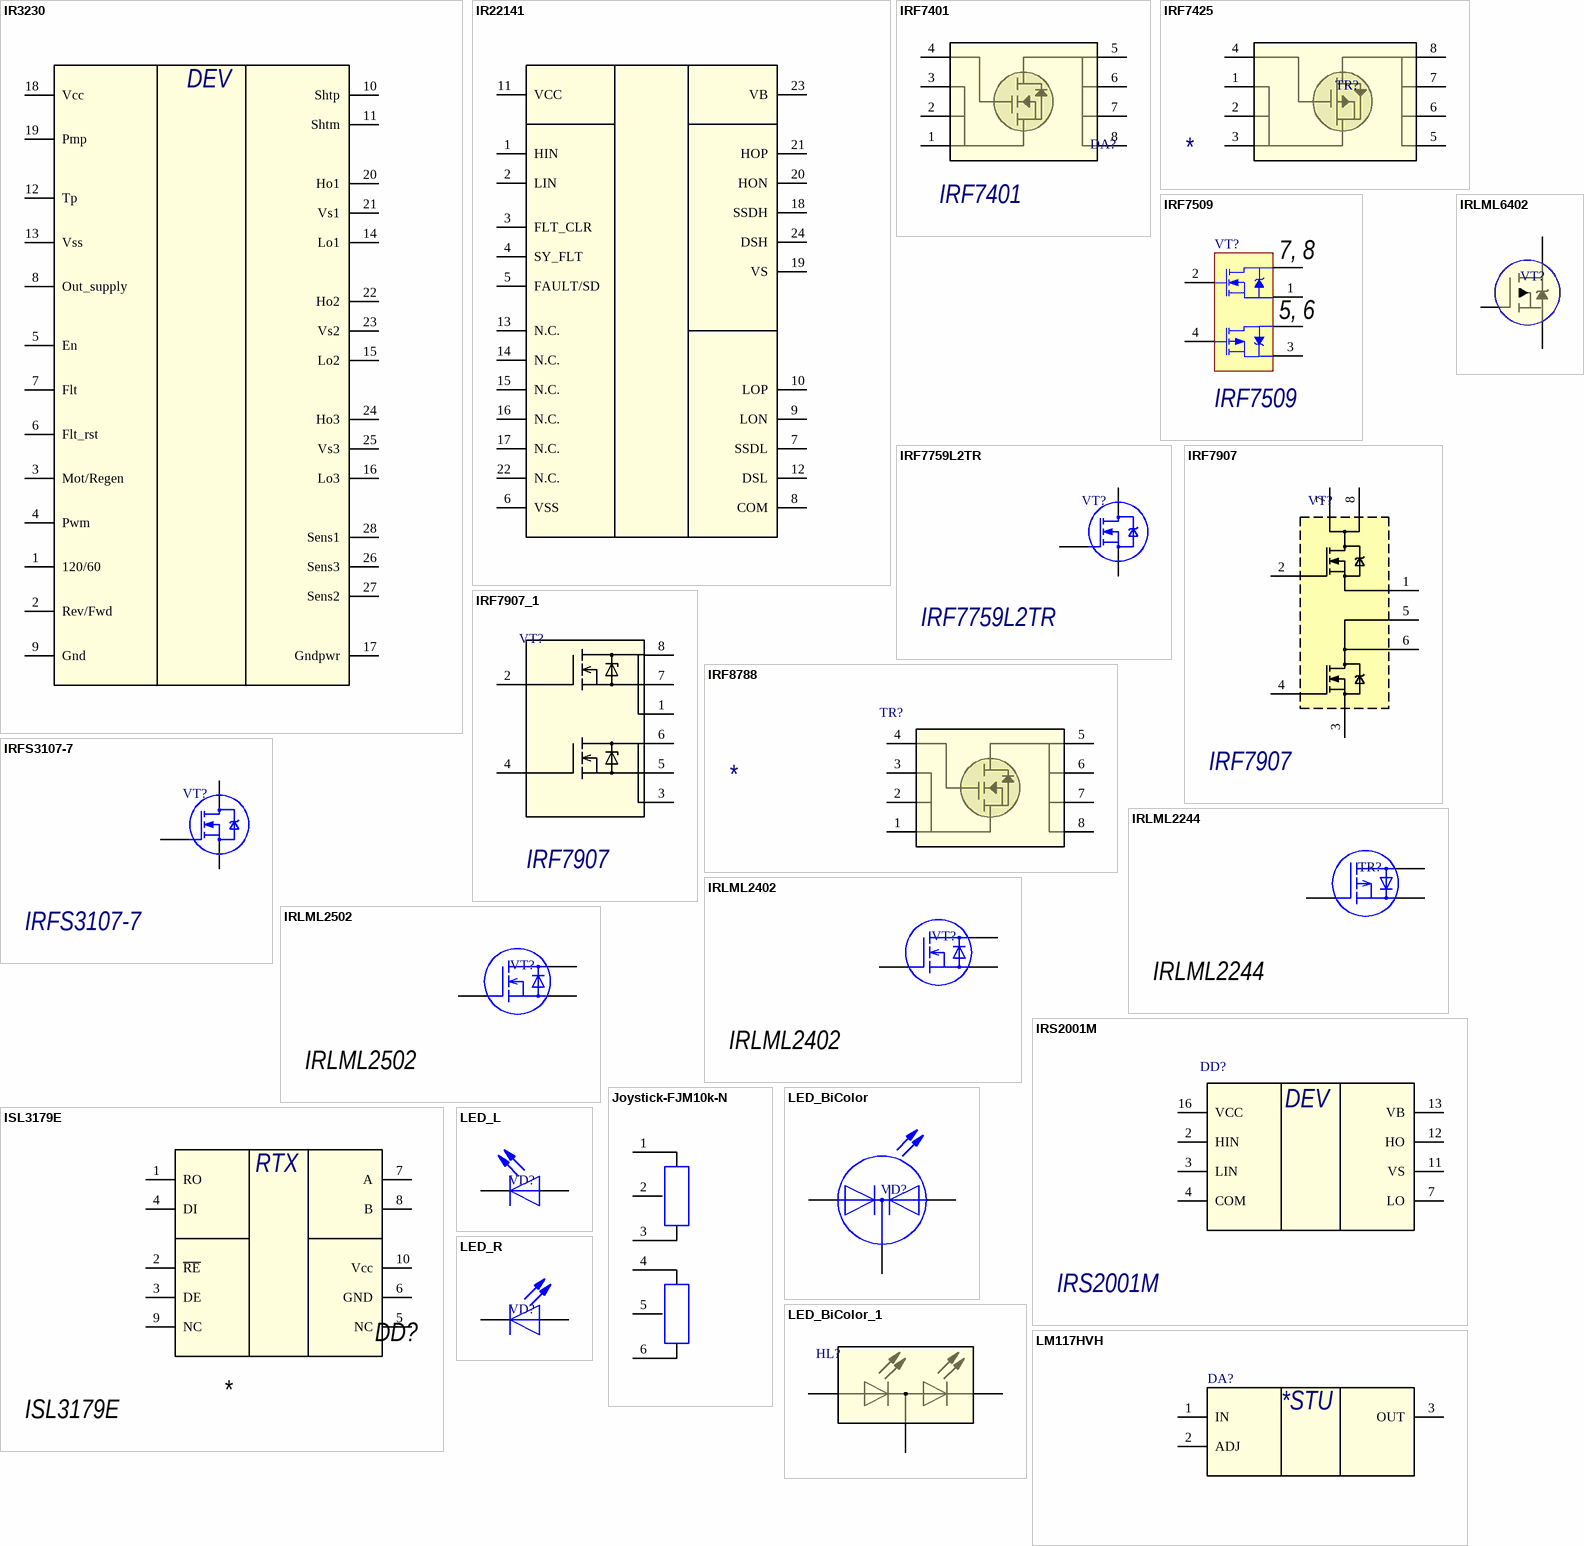
[diagram p13: symbols IR3230 to LM117HVH]

## IR3230
designator DD?
Three-phase brushless DC motor   controller/driver with many integrated features; Name: IR3230
footprint TI-RGZ48-4100X4100TP_N (QFN, 48-Leads, Body 7x7mm, Pitch 0.5mm, Thermal Pad 4.1x4.1mm, IPC Medium Density)
pins: 1 120/60, 2 Rev/Fwd, 3 Mot/Regen, 4 Pwm, 5 En, 6 Flt_rst, 7 Flt, 8 Out_supply, 9 Gnd, 10 Shtp, 11 Shtm, 12 Tp, 13 Vss, 14 Lo1, 15 Lo2, 16 Lo3, 17 Gndpwr, 18 Vcc, 19 Pmp, 20 Ho1, 21 Vs1, 22 Ho2, 23 Vs2, 24 Ho3, 25 Vs3, 26 Sens3, 27 Sens2, 28 Sens1
text: DEV

## IR22141
designator DD?, comment IR22141SSPBF
Gate Driver; Manufacturer: International Rectifier; PackageDescription: 24 Pin Plastic Flat Pack; Mounting Technology: Surface Mount; PartNumber: IR22141SSPBF
footprint SSOP24
pins: 1 HIN (power) "Enable for buck3. Float to enable. Can use this pin to adjust the input under-voltage lockout of buck3 with a resistor 1 EN3 divider", 2 LIN (power) "An open drain output, asserts low if output voltage of any buck beyond regulation range due to thermal shutdown,  over-current, under-voltage or ENx shut down.", 3 FLT_CLR (power) "Open drain power failure output signal.", 4 SY_FLT (power) "When high, an automatic power-up/power-down sequence is provided according to states of EN1, EN2 and EN3  pins.", 5 FAULT/SD (power) "Internal LDO for gate driver and internal controller. Connect a 1µF capacitor from the pin to power ground", 6 VSS (power) "Feedback Kelvin sensing pin for buck2 output voltage. Connect this pin to buck2 resistor divider.", 7 SSDL (power) "Error amplifier output and Loop compensation pin for buck2. Connect a series resistor and capacitor to compensate the control loop of buck2 with peak current PWM mode.", 8 COM (power) "Soft-start and tracking input for buck2. An internal 5µA pull-up current source is connected to this pin. The soft-start  time can be programmed by connecting a capacitor between this pin and ground.", 9 LON (power) "Boot strapped supply to the high side floating gate driver in buck2. Connect a capacitor (recommend 47nF) from  BST2 pin to LX2 pin.", 10 LOP (power) "Switching node connection to the inductor and bootstrap capacitor for buck2. The voltage swing at this pin is from a", 11 VCC (power) "10 LX2 diode voltage below the ground up to PVIN2 voltage.", 12 DSL (power), 13 N.C. (power), 14 N.C. (power), 15 N.C. (power), 16 N.C. (power), 17 N.C. (power), 18 SSDH (power), 19 VS (power), 20 HON (power), 21 HOP (power), 22 N.C. (power), 23 VB (power), 24 DSH (power)

## IRF7401
designator DA?
HEXFET Power MOSFET
footprint SO8_H
pins: 1, 2, 3, 4, 5, 6, 7, 8

## IRF7425
designator TR?
footprint SO8_A
footprint SO8_H
pins: 1 G, 2 S, 3 D, 4, 5, 6, 7, 8

## IRF7509
designator VT?
HEXFET Power MOSFET; Name: IRF7509
footprint Micro8_H
footprint Micro8_A
pins: 1 S1, 2 G1, 3 S2, 4 G2, 5 D2, 6 D2, 7 D1, 8 D1
text: 7, 8; 5, 6

## IRF7759L2TR
designator VT?
Power MOSFET; Name: IRF7759L2TR
footprint DirectFET_LS
footprint PSON_8_TI
pins: D, G, S

## IRF7907
designator VT?
2 x N-MOSFET; Name: IRF7907
footprint SO8_A
footprint SO8_H
pins: 1, 2, 3, 4, 5, 6, 7, 8

## IRF7907_1
designator VT?, comment IRF7907
2 x N-MOSFET; Name: IRF7907
footprint SO8_A
footprint SO8_H
pins: 1, 2, 3, 4, 5, 6, 7, 8

## IRF8788
designator TR?
footprint SO8_A
footprint SO8_H
pins: 1, 2, 3, 4, 5, 6, 7, 8

## IRFS3107-7
designator VT?
HEXFET Power MOSFETs Discrete N-Channel; Name: IRFS3107-7
footprint D2PAK-7
pins: D, G, S

## IRLML2244
designator TR?
MOSFET; Manufacturer Part Number: IRLML2244TRPBF; Manufacturer: International Rectifier; FET Type: MOSFET P-Channel, Metal Oxide; FET Feature: Logic Level Gate; Drain to Source Voltage (Vdss): 20V; Vgs(th) (Max) @ Id: 1.1V @ 10µA; Input Capacitance (Ciss) @ Vds: 570pF @ 16V; Power - Max: 1.3W; Rds On (Max) @ Id, Vgs: 54 mOhm @ 4.3A, 4.5V; Gate Charge (Qg) @ Vgs: 6.9nC @ 4.5V; Current - Continuous Drain (Id) @ 25°C: 4.3A (Ta); Supplier 1: Digi-Key; Supplier Part Number 1: IRLML2244TRPBFCT-ND; Category: Discrete Semiconductor Products; Packaging: Cut Tape (CT); RoHS: RoHS Compliant; Supplier: Digi-Key; Package / Case: TO-236-3, SC-59, SOT-23-3; Mounting Type: Surface Mount; Supplier Device Package: SOT-23; Supplier Part Number: IRLML2244TRPBFCT-ND; Name: IRLML2244
footprint SOT23-3_A
footprint SOT23-3_H
pins: 1 G, 2 S, 3 D

## IRLML2402
designator VT?
MOSFET; Manufacturer: International Rectifier; Manufacturer Part Number: IRLML2402GTRPBF; FET Type: MOSFET N-Channel, Metal Oxide; FET Feature: Logic Level Gate; Drain to Source Voltage (Vdss): 20V; Current - Continuous Drain (Id) @ 25°C: 1.2A (Ta); Rds On (Max) @ Id, Vgs: 250 mOhm @ 930mA, 4.5V; Vgs(th) (Max) @ Id: 700mV @ 250µA; Gate Charge (Qg) @ Vgs: 3.9nC @ 4.5V; Input Capacitance (Ciss) @ Vds: 110pF @ 15V; Power - Max: 540mW; Supplier 1: Digi-Key; Supplier Part Number 1: IRLML2402GTRPBFTR-ND; Category: Discrete Semiconductor Products; Packaging: Tape & Reel (TR); Supplier: Digi-Key; RoHS: RoHS Compliant; Mounting Type: Surface Mount; Package / Case: TO-236-3, SC-59, SOT-23-3; Supplier Device Package: Micro3™/SOT-23; Supplier Part Number: IRLML2402GTRPBFTR-ND; Name: IRLML2402
footprint SOT23-3_H
footprint SOT23-3_A
pins: 1 G, 2 S, 3 D

## IRLML2502
designator VT?
MOSFET; Manufacturer Part Number: IRLML2502GTRPBF; Manufacturer: INTERNATIONAL RECTIFIER; Rds(on) Test Voltage Vgs: 4.5; No. of Pins: 3; On Resistance Rds(on): 35; Drain Source Voltage Vds: 20; Transistor Polarity: N Channel; Continuous Drain Current Id: 4.2; Supplier 1: Newark; RoHS: YES; Supplier: Newark; Supplier Part Number 1: 10R3517; Supplier Part Number: 10R3517; Name: IRLML2502
footprint SOT23-3_H
footprint SOT23-3_A
pins: 1 G, 2 S, 3 D

## IRLML6402
designator VT?  (value not drawn)
MOSFET; Type: P-MOSFET; Current: 1.2A; Vds: 20; Name: IRLML6402
footprint SOT23-3_H
footprint SOT23-3_A
pins: 1 G, 2 S, 3 D

## IRS2001M
designator DD?
HI-LO side driver; Name: IRS2001M
footprint MLPQ4x4
pins: 2 HIN, 3 LIN, 4 COM, 7 LO, 11 VS, 12 HO, 13 VB, 16 VCC
text: DEV

## ISL3179E
designator DD?  Name: ISL3179E
Приемопередатчик RS485
footprint DFN-10LD (10 LEAD DUAL FLAT PACKAGE)
pins: 1 RO, 2 ~{RE}, 3 DE, 4 DI, 5 NC, 6 GND, 7 A, 8 B, 9 NC, 10 Vcc
text: RTX

## Joystick-FJM10k-N
designator R?, comment Joustick
20 MHz MSP430 SoC with RF Core with 32 KB Flash, 4096 B SRAM and 30 GPIOs, -40 to 85 degC, 48-pin QFN (RGZ), Green (RoHS & no Sb/Br); Name: Joustick
footprint Joystick_FJM10K-N
pins: 1, 2, 3, 4, 5, 6

## LED_BiColor
designator VD?
Светодиод
footprint LED-3
pins: 1 K, 2 A, 3 A

## LED_BiColor_1
designator HL?
Светодиод
footprint LED-3
pins: 1 K, 2 A, 3 A

## LED_L
designator VD?
Светодиод
footprint D0603_A
footprint D0603_H
pins: 1 K, 2 A

## LED_R
designator VD?
Светодиод
footprint D0603_A
footprint D0603_H
pins: 1 K, 2 A

## LM117HVH
designator DA?
3-Terminal Adjustable Regulator, 3-pin TO-39; PartNumber: LM117HVH; Manufacturer: National Semiconductor; PackageTopMarking: NSZXYTTE# LM117HVHP+; PowerWise: N; CompType: LDO IC; High-Reliability: Y; DatasheetVersion: Apr-2000; PackageVersion: revD, Feb-1995; PackageReference: H03A; PackageDescription: Metal Can, TO-39, 3 Lead, .200in Dia, P.C.; RoHS: N; PinCount: 3; Code_JEDEC: TO-39; ComponentLink1Description: Manufacturer URL; ComponentLink1URL: http://www.national.com/; ComponentLink2Description: LM117HV Datasheet; ComponentLink2URL: http://www.national.com/ds/LM/LM117HV.pdf; ComponentLink3Description: LM117HV Web Page; ComponentLink3URL: http://www.national.com/pf/LM/LM117HV.html; ComponentLink4Description: H03A Package Page; ComponentLink4URL: http://www.national.com/packaging/folders/h03a.html
footprint TO-39 (Can; 3 Leads; Pin Circle Dia. 5.08 mm; Lead Dia. 0.48 mm (max))
pins: 1 IN (power), 2 ADJ (power), 3 OUT (power)
text: *STU

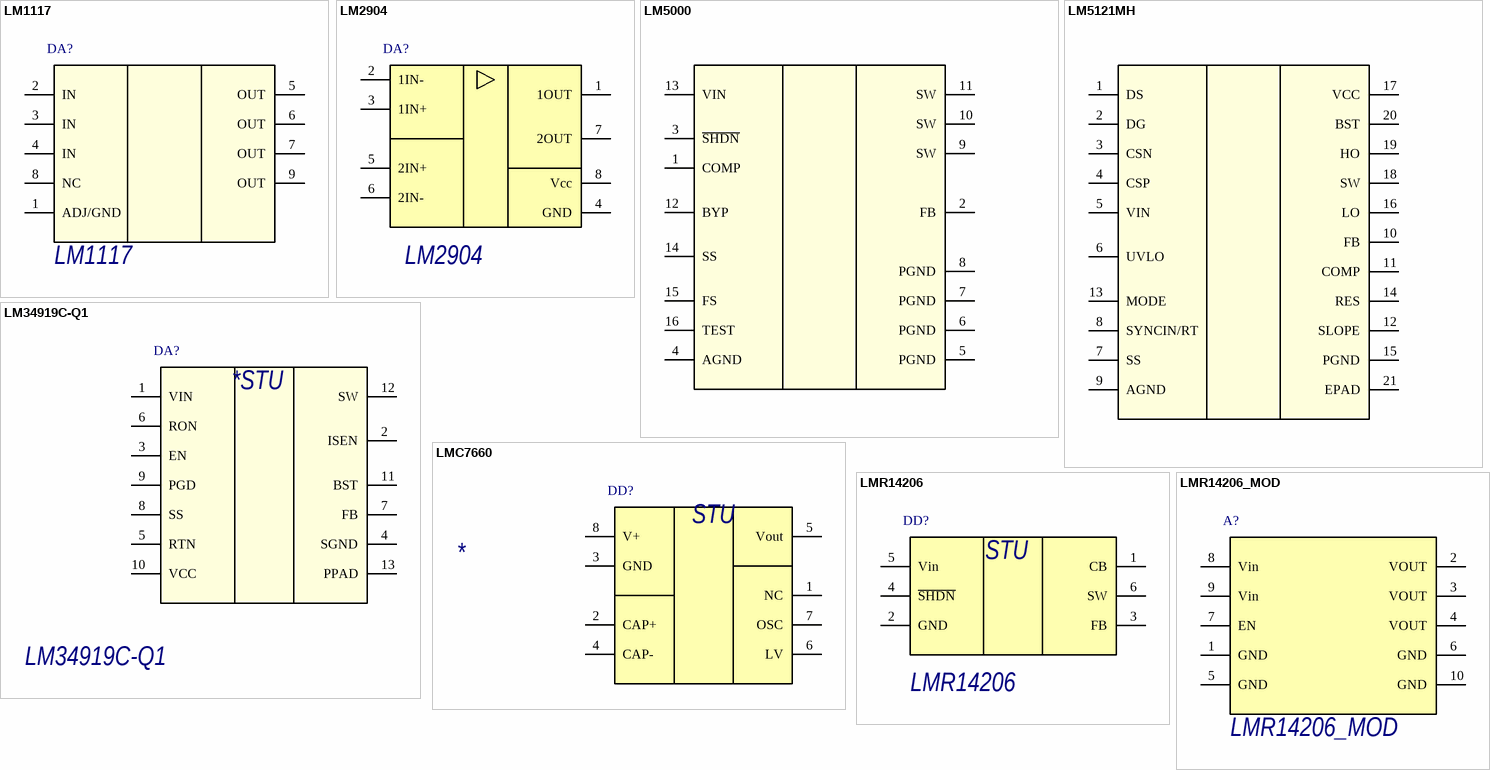
[diagram p14: symbols LM1117 to LMR14206_MOD]

## LM1117
designator DA?
800mA Low-Dropout Linear Regulator; Name: LM1117
footprint LDC08A (PSON, 8-Leads, Body 4x4mm, Pitch 0.8mm, NSC Recommended)
pins: 1 ADJ/GND, 2 IN, 3 IN, 4 IN, 5 OUT, 6 OUT, 7 OUT, 8 NC, 9 OUT

## LM2904
designator DA?
ОУ; Name: LM2904
footprint SO8_H
footprint SO8_A
pins: 1 1OUT, 2 1IN-, 3 1IN+, 4 GND, 5 2IN+, 6 2IN-, 7 2OUT, 8 Vcc

## LM5000
designator DD?
High Voltage Switch Mode Regulator; Value: Value; Name: LM5000
footprint TSSOP16
pins: 1 COMP (power) "Enable for buck3. Float to enable. Can use this pin to adjust the input under-voltage lockout of buck3 with a resistor 1 EN3 divider", 2 FB (power) "An open drain output, asserts low if output voltage of any buck beyond regulation range due to thermal shutdown,  over-current, under-voltage or ENx shut down.", 3 ~{SHDN} (power) "Open drain power failure output signal.", 4 AGND (power) "When high, an automatic power-up/power-down sequence is provided according to states of EN1, EN2 and EN3  pins.", 5 PGND (power) "Internal LDO for gate driver and internal controller. Connect a 1µF capacitor from the pin to power ground", 6 PGND (power) "Feedback Kelvin sensing pin for buck2 output voltage. Connect this pin to buck2 resistor divider.", 7 PGND (power) "Error amplifier output and Loop compensation pin for buck2. Connect a series resistor and capacitor to compensate the control loop of buck2 with peak current PWM mode.", 8 PGND (power) "Soft-start and tracking input for buck2. An internal 5µA pull-up current source is connected to this pin. The soft-start  time can be programmed by connecting a capacitor between this pin and ground.", 9 SW (power) "Boot strapped supply to the high side floating gate driver in buck2. Connect a capacitor (recommend 47nF) from  BST2 pin to LX2 pin.", 10 SW (power) "Switching node connection to the inductor and bootstrap capacitor for buck2. The voltage swing at this pin is from a", 11 SW (power) "10 LX2 diode voltage below the ground up to PVIN2 voltage.", 12 BYP (power), 13 VIN (power), 14 SS (power), 15 FS (power), 16 TEST (power)

## LM5121MH
designator DD?, comment LM5121
Automotive Grade, 3-65V Wide Vin, Current Mode Synchronous Boost with Disconnection Switch Control; Name: LM5121
footprint HTSSOP20
pins: 1 DS (power) "Enable for buck3. Float to enable. Can use this pin to adjust the input under-voltage lockout of buck3 with a resistor 1 EN3 divider", 2 DG (power) "An open drain output, asserts low if output voltage of any buck beyond regulation range due to thermal shutdown,  over-current, under-voltage or ENx shut down.", 3 CSN (power) "Open drain power failure output signal.", 4 CSP (power) "When high, an automatic power-up/power-down sequence is provided according to states of EN1, EN2 and EN3  pins.", 5 VIN (power) "Internal LDO for gate driver and internal controller. Connect a 1µF capacitor from the pin to power ground", 6 UVLO (power) "Feedback Kelvin sensing pin for buck2 output voltage. Connect this pin to buck2 resistor divider.", 7 SS (power) "Error amplifier output and Loop compensation pin for buck2. Connect a series resistor and capacitor to compensate the control loop of buck2 with peak current PWM mode.", 8 SYNCIN/RT (power) "Soft-start and tracking input for buck2. An internal 5µA pull-up current source is connected to this pin. The soft-start  time can be programmed by connecting a capacitor between this pin and ground.", 9 AGND (power) "Boot strapped supply to the high side floating gate driver in buck2. Connect a capacitor (recommend 47nF) from  BST2 pin to LX2 pin.", 10 FB (power) "Switching node connection to the inductor and bootstrap capacitor for buck2. The voltage swing at this pin is from a", 11 COMP (power) "10 LX2 diode voltage below the ground up to PVIN2 voltage.", 12 SLOPE (power), 13 MODE (power), 14 RES (power), 15 PGND (power), 16 LO (power), 17 VCC (power), 18 SW (power), 19 HO (power), 20 BST (power), 21 EPAD (power)

## LM34919C-Q1
designator DA?
DC\DC; Name: LM34919C-Q1
footprint WSON12 (PSON, 14-Leads, Body 4x4mm, Pitch 0.5mm, NSC Recommended)
pins: 1 VIN, 2 ISEN, 3 EN, 4 SGND, 5 RTN, 6 RON , 7 FB, 8 SS, 9 PGD, 10 VCC, 11 BST, 12 SW, 13 PPAD
text: *STU

## LMC7660
designator DD?
footprint SO8_A
pins: 1 NC, 2 CAP+, 3 GND, 4 CAP-, 5 Vout, 6 LV, 7 OSC, 8 V+
text: STU

## LMR14206
designator DD?
DC\DC; Supplier 1: Mouser; Supplier Part Number 1: 926-LMR14206XMK/NOPB; Name: LMR14206
footprint SOT23-6_A
footprint SOT23-6_H
pins: 1 CB, 2 GND, 3 FB, 4 ~{SHDN}, 5 Vin, 6 SW
text: STU

## LMR14206_MOD
designator A?
DC\DC; Vin: 4.5V to 42V; VOUT: 0.765V to 34V; Name: LMR14206_MOD
footprint LMR14206
pins: 1 GND, 2 VOUT, 3 VOUT, 4 VOUT, 5 GND, 6 GND, 7 EN, 8 Vin, 9 Vin, 10 GND

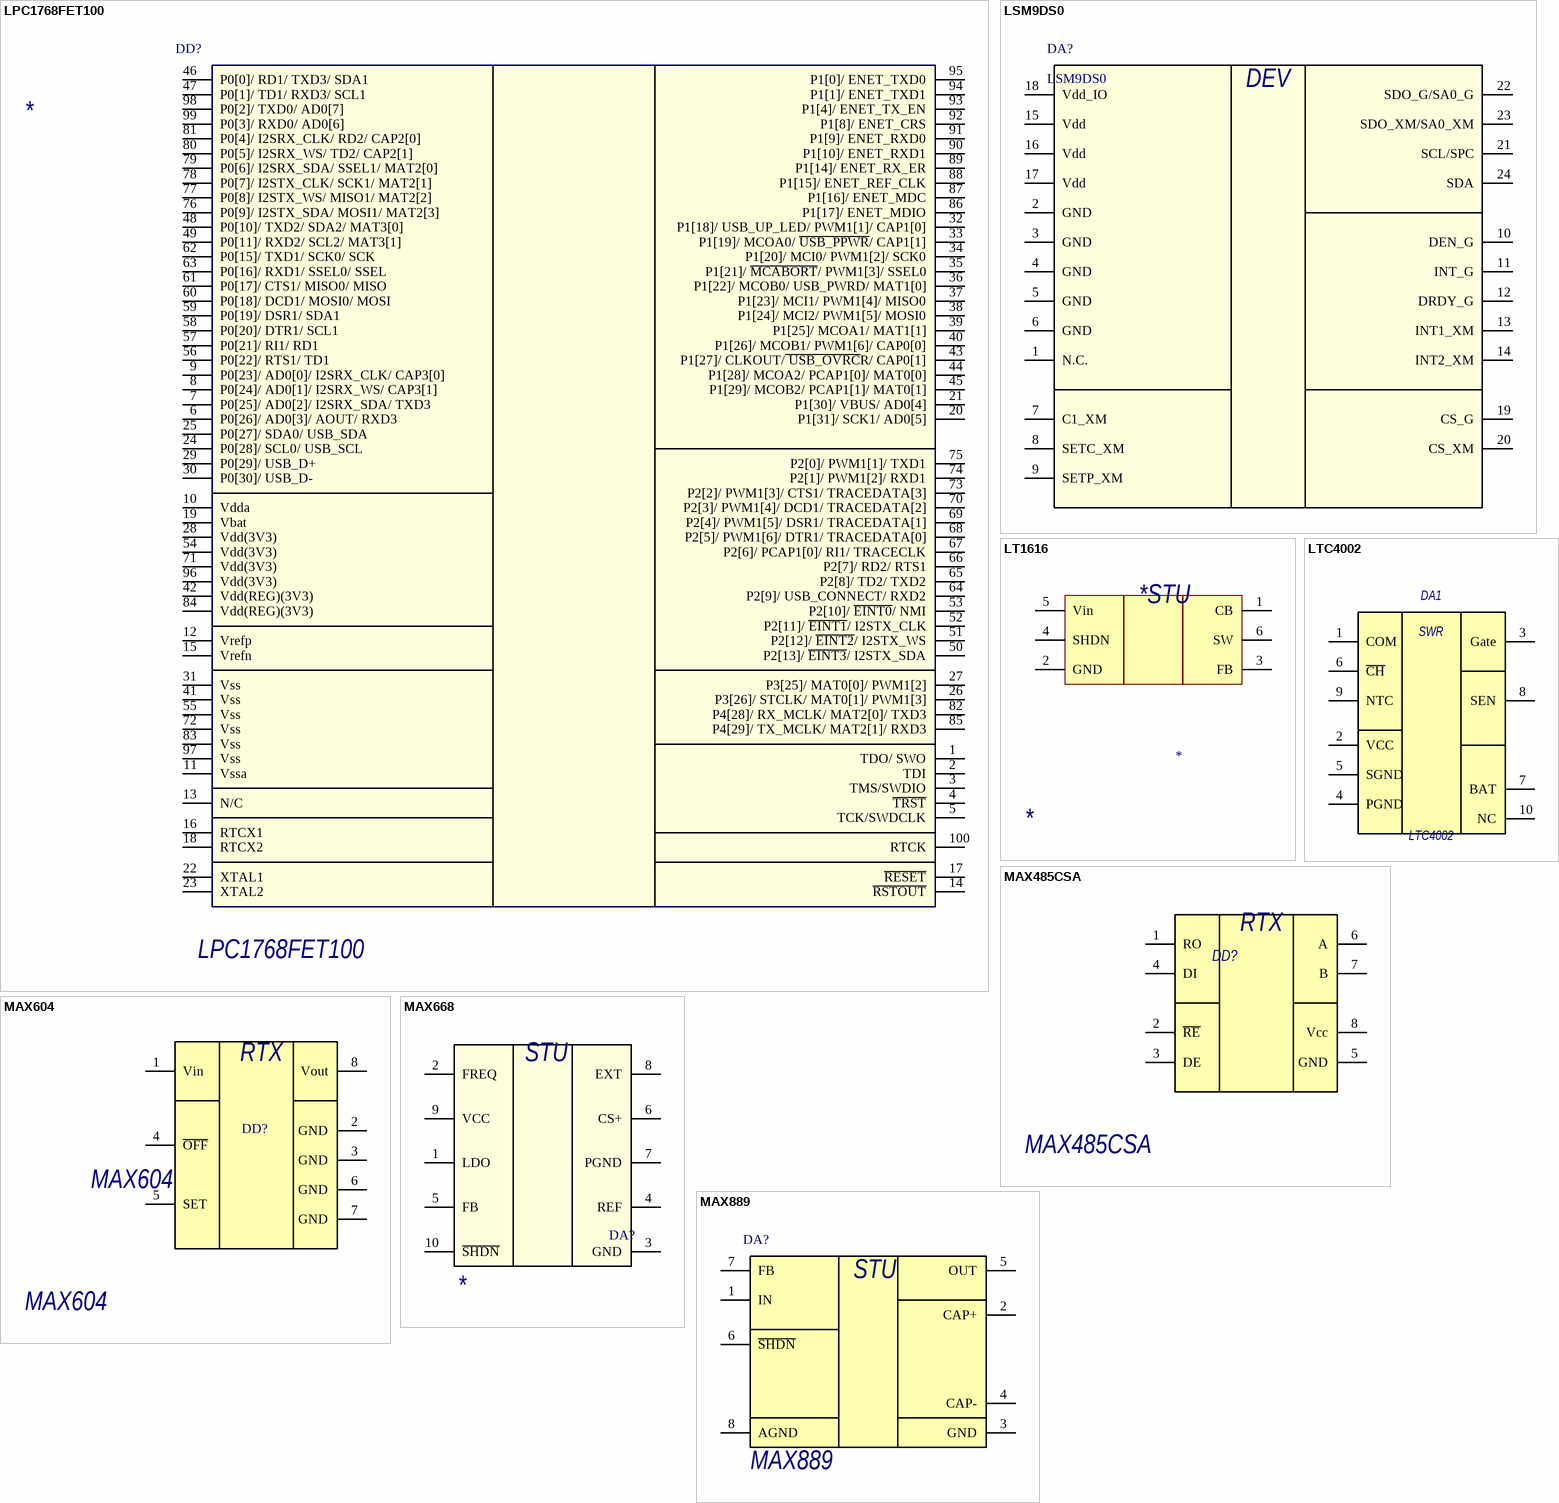
[diagram p15: symbols LPC1768FET100 to MAX889]

## LPC1768FET100
designator DD?  Name: LPC1768FET100
footprint SOT407-1_L (Thin QFP, 100-Leads, Body 14x14mm, Pitch 0.5mm, IPC High Density)
footprint SOT407-1_M (Thin QFP, 100-Leads, Body 14x14mm, Pitch 0.5mm, IPC Low Density)
footprint SOT407-1_N (Thin QFP, 100-Leads, Body 14x14mm, Pitch 0.5mm, IPC Medium Density)
pins: 1 TDO/ SWO, 2 TDI, 3 TMS/SWDIO, 4 ~{TRST}, 5 TCK/SWDCLK, 6 P0[26]/ AD0[3]/ AOUT/ RXD3, 7 P0[25]/ AD0[2]/ I2SRX_SDA/ TXD3, 8 P0[24]/ AD0[1]/ I2SRX_WS/ CAP3[1], 9 P0[23]/ AD0[0]/ I2SRX_CLK/ CAP3[0], 10 Vdda, 11 Vssa, 12 Vrefp, 13 N/C, 14 ~{RSTOUT}, 15 Vrefn, 16 RTCX1, 17 ~{RESET}, 18 RTCX2, 19 Vbat, 20 P1[31]/ SCK1/ AD0[5], 21 P1[30]/ VBUS/ AD0[4], 22 XTAL1, 23 XTAL2, 24 P0[28]/ SCL0/ USB_SCL, 25 P0[27]/ SDA0/ USB_SDA, 26 P3[26]/ STCLK/ MAT0[1]/ PWM1[3], 27 P3[25]/ MAT0[0]/ PWM1[2], 28 Vdd(3V3), 29 P0[29]/ USB_D+, 30 P0[30]/ USB_D-, 31 Vss, 32 P1[18]/ USB_UP_LED/ PWM1[1]/ CAP1[0], 33 P1[19]/ MCOA0/ ~{USB_PPWR}/ CAP1[1], 34 P1[20]/ MCI0/ PWM1[2]/ SCK0, 35 P1[21]/ ~{MCABORT}/ PWM1[3]/ SSEL0, 36 P1[22]/ MCOB0/ USB_PWRD/ MAT1[0], 37 P1[23]/ MCI1/ PWM1[4]/ MISO0, 38 P1[24]/ MCI2/ PWM1[5]/ MOSI0, 39 P1[25]/ MCOA1/ MAT1[1], 40 P1[26]/ MCOB1/ PWM1[6]/ CAP0[0], 41 Vss, 42 Vdd(REG)(3V3), 43 P1[27]/ CLKOUT/~{ USB_OVRC}R/ CAP0[1], 44 P1[28]/ MCOA2/ PCAP1[0]/ MAT0[0], 45 P1[29]/ MCOB2/ PCAP1[1]/ MAT0[1], 46 P0[0]/ RD1/ TXD3/ SDA1, 47 P0[1]/ TD1/ RXD3/ SCL1, 48 P0[10]/ TXD2/ SDA2/ MAT3[0], 49 P0[11]/ RXD2/ SCL2/ MAT3[1], 50 P2[13]/ ~{EINT3}/ I2STX_SDA, 51 P2[12]/ ~{EINT2}/ I2STX_WS, 52 P2[11]/ ~{EINT1}/ I2STX_CLK, 53 P2[10]/ ~{EINT0}/ NMI, 54 Vdd(3V3), 55 Vss, 56 P0[22]/ RTS1/ TD1, 57 P0[21]/ RI1/ RD1, 58 P0[20]/ DTR1/ SCL1, 59 P0[19]/ DSR1/ SDA1, 60 P0[18]/ DCD1/ MOSI0/ MOSI, 61 P0[17]/ CTS1/ MISO0/ MISO, 62 P0[15]/ TXD1/ SCK0/ SCK, 63 P0[16]/ RXD1/ SSEL0/ SSEL, 64 P2[9]/ USB_CONNECT/ RXD2, 65 P2[8]/ TD2/ TXD2, 66 P2[7]/ RD2/ RTS1, 67 P2[6]/ PCAP1[0]/ RI1/ TRACECLK, 68 P2[5]/ PWM1[6]/ DTR1/ TRACEDATA[0], 69 P2[4]/ PWM1[5]/ DSR1/ TRACEDATA[1], 70 P2[3]/ PWM1[4]/ DCD1/ TRACEDATA[2], 71 Vdd(3V3), 72 Vss, 73 P2[2]/ PWM1[3]/ CTS1/ TRACEDATA[3], 74 P2[1]/ PWM1[2]/ RXD1, 75 P2[0]/ PWM1[1]/ TXD1, 76 P0[9]/ I2STX_SDA/ MOSI1/ MAT2[3], 77 P0[8]/ I2STX_WS/ MISO1/ MAT2[2], 78 P0[7]/ I2STX_CLK/ SCK1/ MAT2[1], 79 P0[6]/ I2SRX_SDA/ SSEL1/ MAT2[0], 80 P0[5]/ I2SRX_WS/ TD2/ CAP2[1], 81 P0[4]/ I2SRX_CLK/ RD2/ CAP2[0], 82 P4[28]/ RX_MCLK/ MAT2[0]/ TXD3, 83 Vss, 84 Vdd(REG)(3V3), 85 P4[29]/ TX_MCLK/ MAT2[1]/ RXD3, 86 P1[17]/ ENET_MDIO, 87 P1[16]/ ENET_MDC, 88 P1[15]/ ENET_REF_CLK, 89 P1[14]/ ENET_RX_ER, 90 P1[10]/ ENET_RXD1, 91 P1[9]/ ENET_RXD0, 92 P1[8]/ ENET_CRS, 93 P1[4]/ ENET_TX_EN, 94 P1[1]/ ENET_TXD1, 95 P1[0]/ ENET_TXD0, 96 Vdd(3V3), 97 Vss, 98 P0[2]/ TXD0/ AD0[7], 99 P0[3]/ RXD0/ AD0[6], 100 RTCK

## LSM9DS0
designator DА?
Гироскоп, акселерометр, магнитоиметр; Name: LSM9DS0
footprint LGA24_4x4
pins: 1 N.C., 2 GND, 3 GND, 4 GND, 5 GND, 6 GND, 7 C1_XM, 8 SETC_XM, 9 SETP_XM, 10 DEN_G, 11 INT_G, 12 DRDY_G, 13 INT1_XM, 14 INT2_XM, 15 Vdd, 16 Vdd, 17 Vdd, 18 Vdd_IO, 19 CS_G, 20 CS_XM, 21 SCL/SPC, 22 SDO_G/SA0_G, 23 SDO_XM/SA0_XM, 24 SDA
text: DEV

## LT1616
designator *
footprint SOT23-6_H
pins: 1 CB, 2 GND, 3 FB, 4 SHDN, 5 Vin, 6 SW
text: *STU

## LTC4002
designator DA1
1-cell LI-PO charger; Name: LTC4002
footprint DFN10_H
footprint DFN10_A
pins: 1 COM, 2 VCC, 3 Gate, 4 PGND, 5 SGND, 6 ~{CH}, 7 BAT, 8 SEN, 9 NTC, 10 NC
text: SWR

## MAX485CSA
designator DD?
Преобразователь RX-TX в RS485; Name: MAX485CSA
footprint SOT23-8_H
pins: 1 RO, 2 ~{RE}, 3 DE, 4 DI, 5 GND, 6 A, 7 B, 8 Vcc
text: RTX

## MAX604
designator DD?
Линейный регулятор; Name: MAX604
pins: 1 Vin, 2 GND, 3 GND, 4 ~{OFF}, 5 SET, 6 GND, 7 GND, 8 Vout
text: RTX

## MAX668
designator DA?
Step-up DC/DC
footprint uSOP-10_H
pins: 1 LDO, 2 FREQ, 3 GND, 4 REF, 5 FB, 6 CS+, 7 PGND, 8 EXT, 9 VCC, 10 ~{SHDN}
text: STU

## MAX889
designator DA?
инвертор; Name: MAX889
footprint SO8_H
footprint SO8_A
pins: 1 IN, 2 CAP+, 3 GND, 4 CAP-, 5 OUT, 6 ~{SHDN}, 7 FB, 8 AGND
text: STU

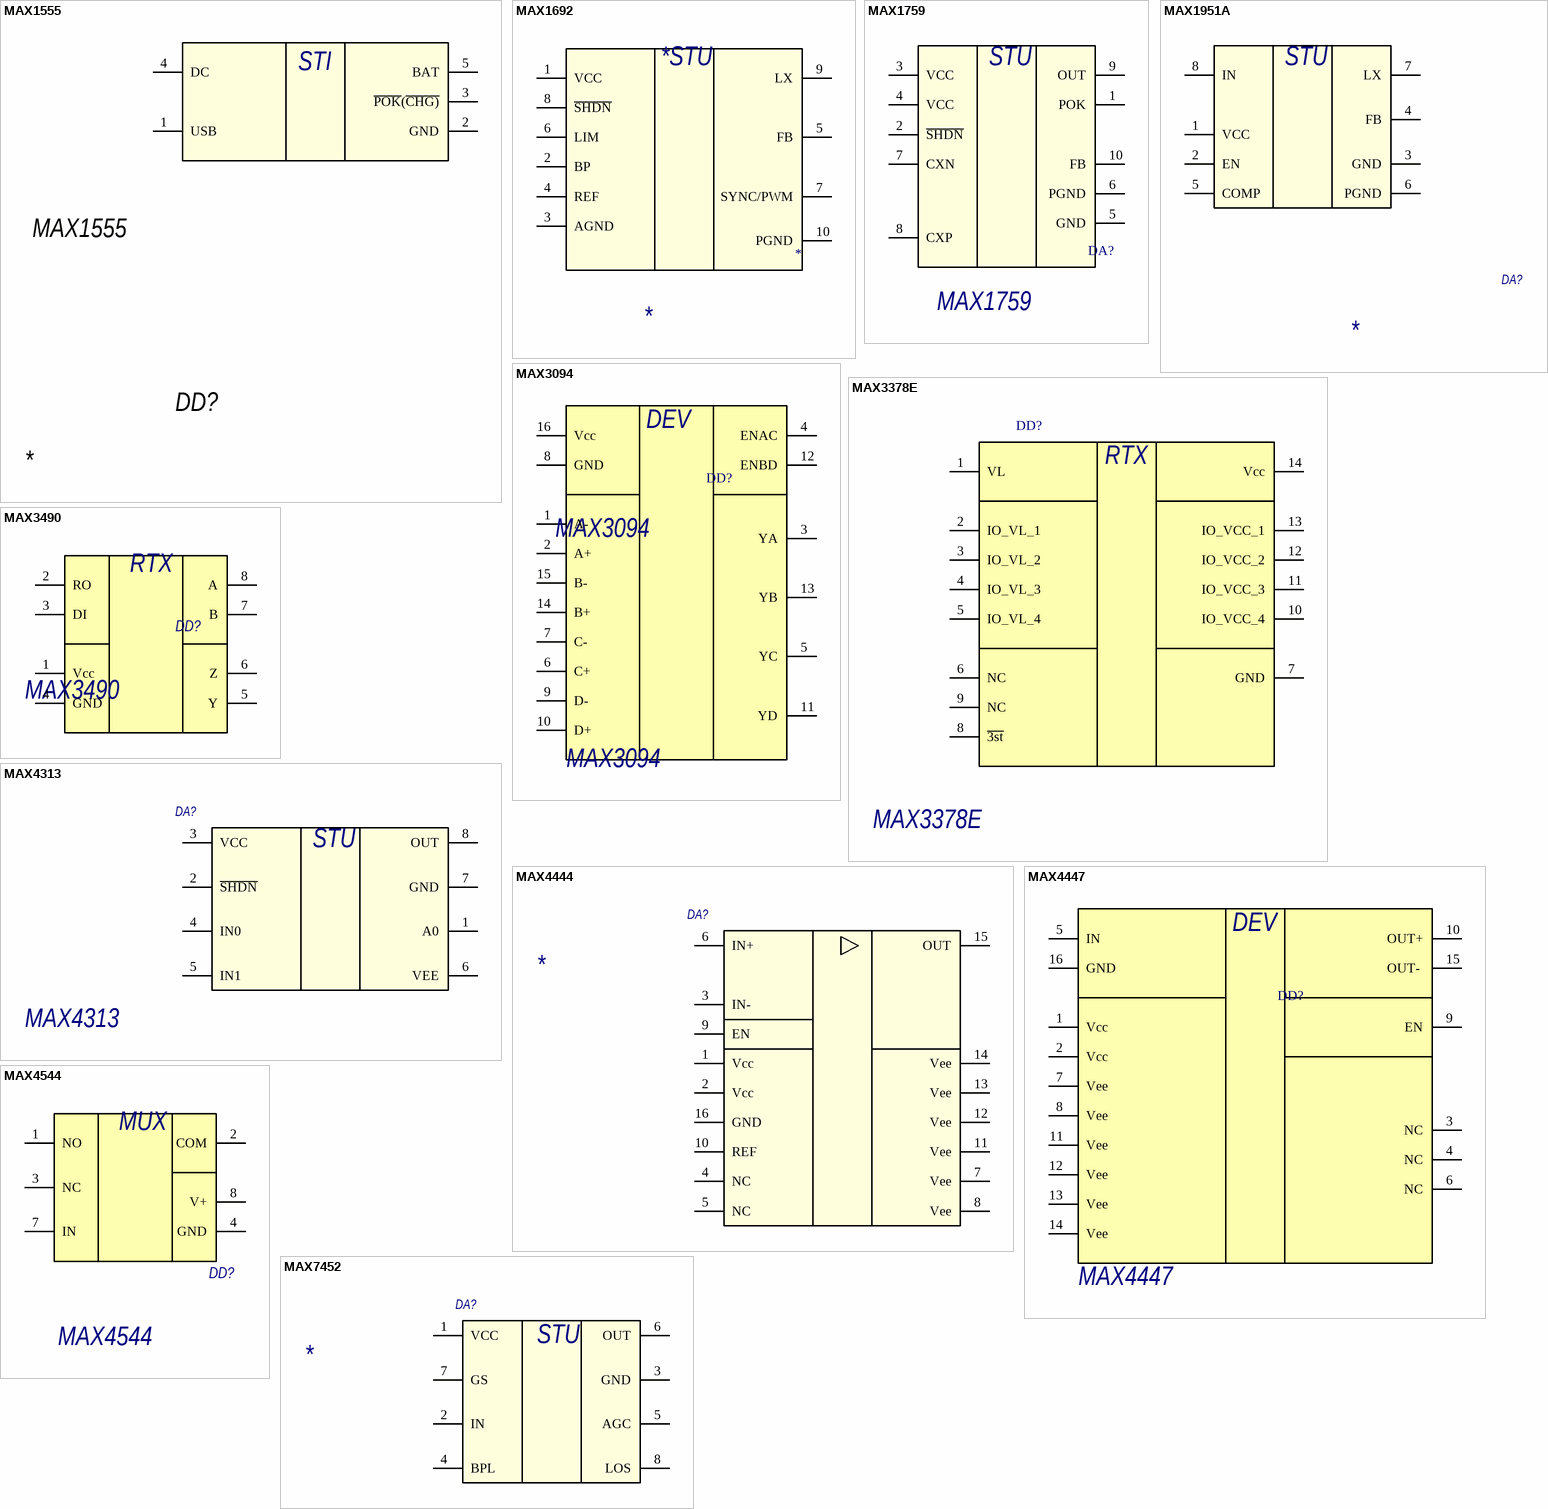
[diagram p16: symbols MAX1555 to MAX7452]

## MAX1555
designator DD?  Name: MAX1555
Микросхема заряда аккумулятора
footprint SOT23-5_A
footprint SOT23-5_H
pins: 1 USB, 2 GND, 3 ~{POK}(~{CHG)}, 4 DC, 5 BAT
text: STI

## MAX1692
designator *
footprint uSOP-10_H
pins: 1 VCC, 2 BP, 3 AGND, 4 REF, 5 FB, 6 LIM, 7 SYNC/PWM, 8 ~{SHDN}, 9 LX, 10 PGND
text: *STU

## MAX1759
designator DA?
Buck/Boost regulator
footprint uSOP-10_H
pins: 1 POK, 2 ~{SHDN}, 3 VCC, 4 VCC, 5 GND, 6 PGND, 7 CXN, 8 CXP, 9 OUT, 10 FB
text: STU

## MAX1951A
designator DA?
footprint SO8_H
pins: 1 VCC, 2 EN, 3 GND, 4 FB, 5 COMP, 6 PGND, 7 LX, 8 IN
text: STU

## MAX3094
designator DD?
приемник LVDS; Name: MAX3094
footprint TSSOP-16
pins: 1 A-, 2 A+, 3 YA, 4 ENAC, 5 YC, 6 C+, 7 C-, 8 GND, 9 D-, 10 D+, 11 YD, 12 ENBD, 13 YB, 14 B+, 15 B-, 16 Vcc
text: DEV

## MAX3378E
designator DD?
Преобразователь уровней; Name: MAX3378E
footprint TSSOP14_A
footprint TSSOP14_H
pins: 1 VL, 2 IO_VL_1, 3 IO_VL_2, 4 IO_VL_3, 5 IO_VL_4, 6 NC, 7 GND, 8 ~{3st}, 9 NC, 10 IO_VCC_4, 11 IO_VCC_3, 12 IO_VCC_2, 13 IO_VCC_1, 14 Vcc
text: RTX

## MAX3490
designator DD?
Преобразователь интерфесов RS-422/RS-485; Name: MAX3490
footprint SO8_A
pins: 1 Vcc, 2 RO, 3 DI, 4 GND, 5 Y, 6 Z, 7 B, 8 A
text: RTX

## MAX4313
designator DA?
Name: MAX4313
footprint SO8_H
pins: 1 A0, 2 ~{SHDN}, 3 VCC, 4 IN0, 5 IN1, 6 VEE, 7 GND, 8 OUT
text: STU

## MAX4444
designator DA?
Name: *
footprint SO8_H
pins: 1 Vcc, 2 Vcc, 3 IN-, 4 NC, 5 NC, 6 IN+, 7 Vee, 8 Vee, 9 EN, 10 REF, 11 Vee, 12 Vee, 13 Vee, 14 Vee, 15 OUT, 16 GND

## MAX4447
designator DD?
Name: MAX4447
footprint SO-16
pins: 1 Vcc, 2 Vcc, 3 NC, 4 NC, 5 IN, 6 NC, 7 Vee, 8 Vee, 9 EN, 10 OUT+, 11 Vee, 12 Vee, 13 Vee, 14 Vee, 15 OUT- , 16 GND
text: DEV

## MAX4544
designator DD?
Аналоговый коммутатор; Name: MAX4544
footprint SO8_A
footprint SO8_H
pins: 1 NO, 2 COM, 3 NC, 4 GND, 7 IN, 8 V+
text: MUX

## MAX7452
designator DA?
footprint SO8_H
pins: 1 VCC, 2 IN, 3 GND, 4 BPL, 5 AGC, 6 OUT, 7 GS, 8 LOS
text: STU

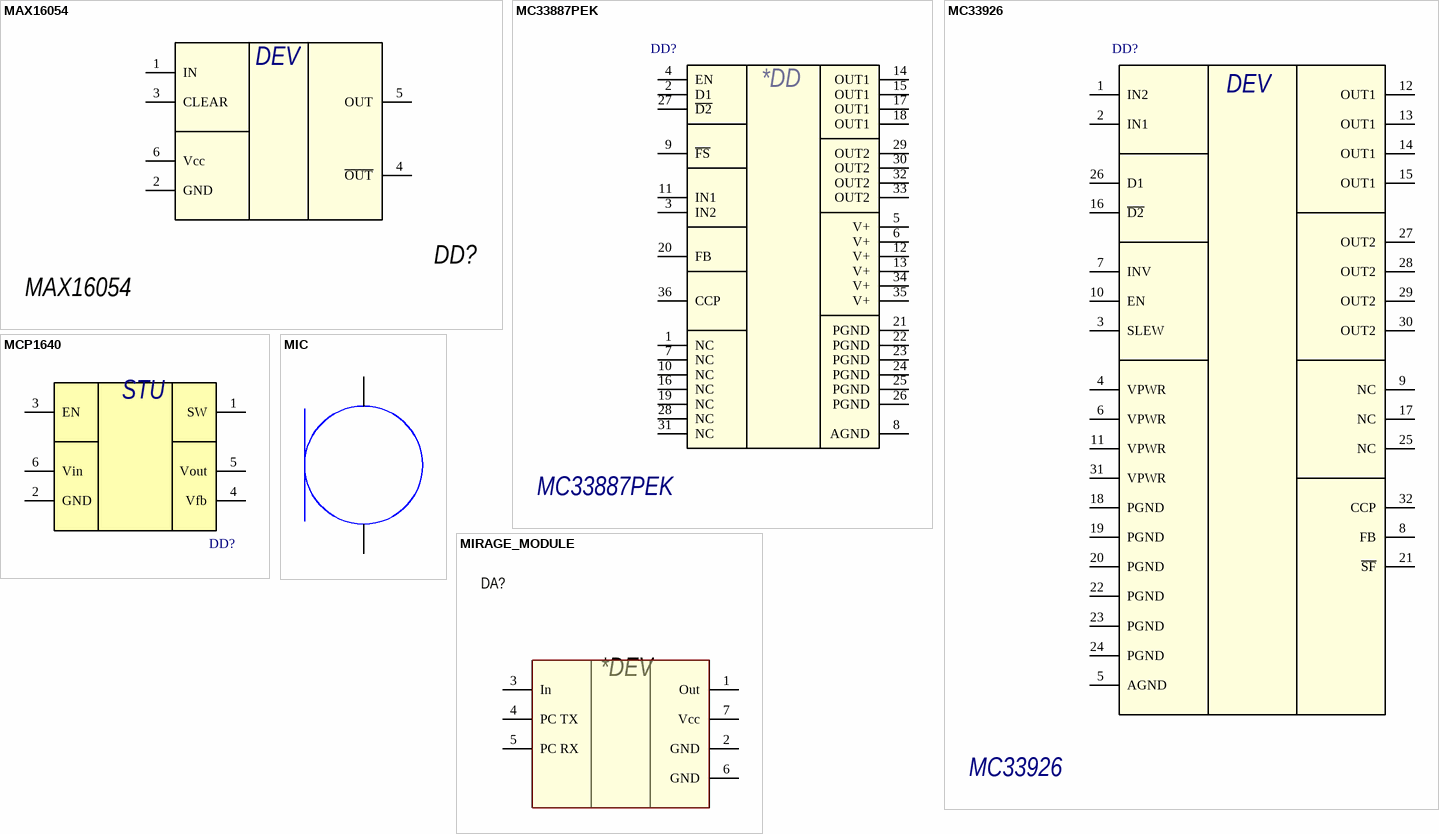
[diagram p17: symbols MAX16054 to MIRAGE_MODULE]

## MAX16054
designator DD?  Name: MAX16054  (hidden comment: *)
ON/OFF Controller
footprint SOT23-6_A
footprint SOT23-6_H
pins: 1 IN, 2 GND, 3 CLEAR, 4 ~{OUT}, 5 OUT, 6 Vcc
text: DEV

## MC33887PEK
designator DD?
Силовой мост; Name: MC33887PEK
footprint PQFN36
pins: 1 NC, 2 D1, 3 IN2, 4 EN, 5 V+, 6 V+, 7 NC, 8 AGND, 9 ~{FS}, 10 NC, 11 IN1, 12 V+, 13 V+, 14 OUT1, 15 OUT1, 16 NC, 17 OUT1, 18 OUT1, 19 NC, 20 FB, 21 PGND, 22 PGND, 23 PGND, 24 PGND, 25 PGND, 26 PGND, 27 ~{D2}, 28 NC, 29 OUT2, 30 OUT2, 31 NC, 32 OUT2, 33 OUT2, 34 V+, 35 V+, 36 CCP
text: *DD

## MC33926
designator DD?
Н-мост 5А; Name: MC33926
footprint PQFN32
pins: 1 IN2, 2 IN1, 3 SLEW, 4 VPWR, 5 AGND, 6 VPWR, 7 INV, 8 FB, 9 NC, 10 EN, 11 VPWR, 12 OUT1, 13 OUT1, 14 OUT1, 15 OUT1, 16 ~{D2}, 17 NC, 18 PGND, 19 PGND, 20 PGND, 21 ~{SF}, 22 PGND, 23 PGND, 24 PGND, 25 NC, 26 D1, 27 OUT2, 28 OUT2, 29 OUT2, 30 OUT2, 31 VPWR, 32 CCP
text: DEV

## MCP1640
designator DD?  (value not drawn)
Импульсный DC-DC конвертер
footprint SOT23-6_H
pins: 1 SW, 2 GND, 3 EN, 4 Vfb, 5 Vout, 6 Vin
text: STU

## MIC
designator ?, comment AUDIO_CODEC_CTRL  (value not drawn)
Audio Codec Control; PortComponent: True; Published: 22-Jan-2007; Publisher: Altium Limited; HelpURL: https://wiki.altium.com/display/ADOH/NanoBoard+3000+-+Audio+CODEC
pins: 1, 2

## MIRAGE_MODULE
designator DA?  (value not drawn)
Видео маскиратор/демаскиратор
footprint MIRAGE_MODULE
pins: 1 Out, 2 GND, 3 In, 4 PC TX, 5 PC RX, 6 GND, 7 Vcc
text: *DEV

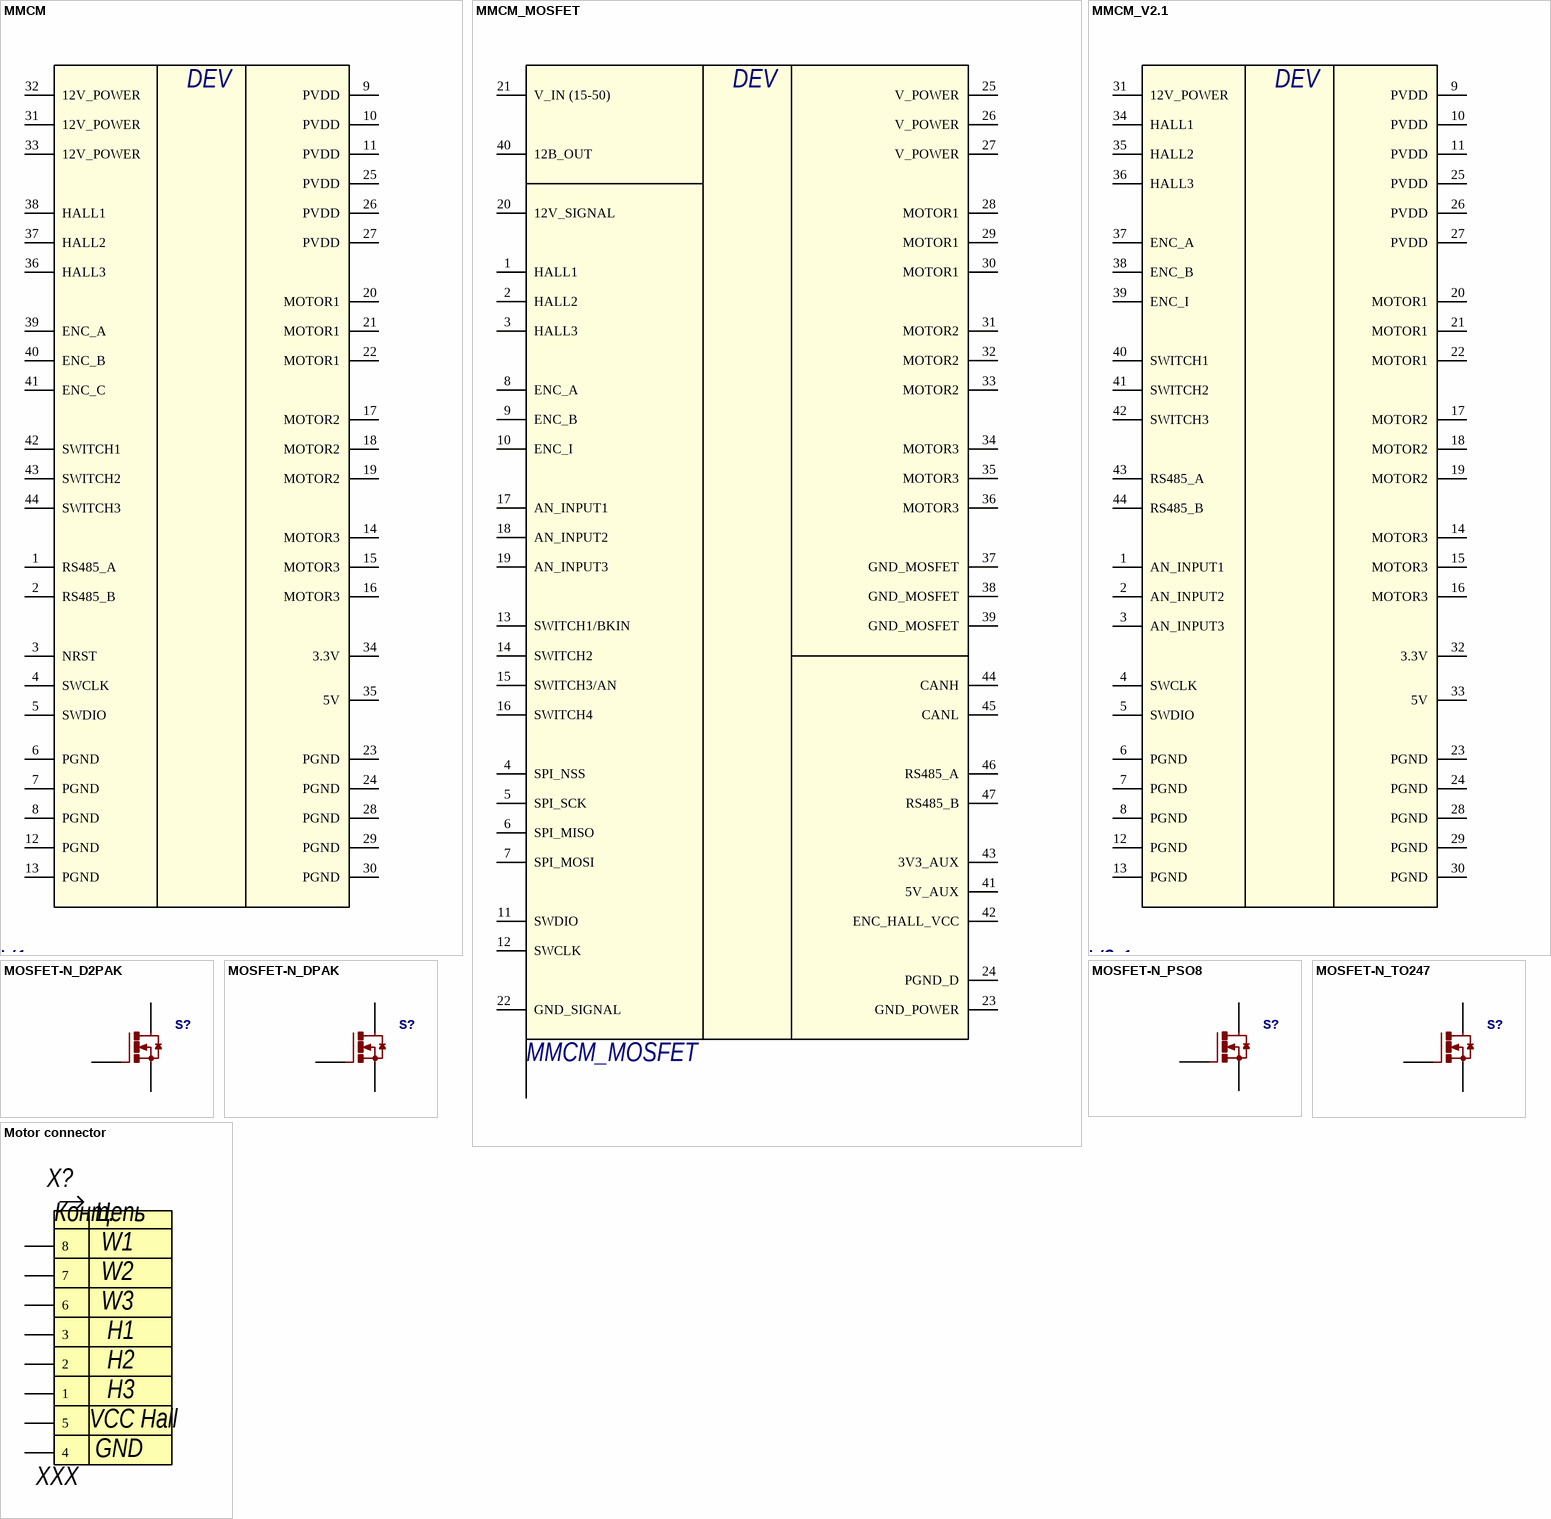
[diagram p18: symbols MMCM to Motor connector]

## MMCM
designator DD?, comment MMCM_V1
Motor Driver; Manufacturer: Tarasoventerprise; PackageVersion: V1; Mounting Technology: Surface Mount; PackageDescription: 44-Pin Flat Pack, Body 40 x 20 mm, Pitch 2 mm; PartNumber: MMCM_V1
footprint MMCM
pins: 1 RS485_A, 2 RS485_B, 3 NRST, 4 SWCLK, 5 SWDIO, 6 PGND, 7 PGND, 8 PGND, 9 PVDD, 10 PVDD, 11 PVDD, 12 PGND, 13 PGND, 14 MOTOR3, 15 MOTOR3, 16 MOTOR3, 17 MOTOR2, 18 MOTOR2, 19 MOTOR2, 20 MOTOR1, 21 MOTOR1, 22 MOTOR1, 23 PGND, 24 PGND, 25 PVDD, 26 PVDD, 27 PVDD, 28 PGND, 29 PGND, 30 PGND, 31 12V_POWER, 32 12V_POWER, 33 12V_POWER, 34 3.3V, 35 5V, 36 HALL3, 37 HALL2, 38 HALL1, 39 ENC_A, 40 ENC_B, 41 ENC_C, 42 SWITCH1, 43 SWITCH2, 44 SWITCH3
text: DEV

## MMCM_MOSFET
designator DD?
Motor Driver; Manufacturer: Tarasoventerprise; PackageVersion: MOSFET; Mounting Technology: Surface Mount; PackageDescription: &&-Pin Flat Pack, Body 60 x 25 mm,; PartNumber: MMCM_MOSFET
footprint MMCM_MOSFET
footprint MMCM_MOSFET_V2
pins: 1 HALL1, 2 HALL2, 3 HALL3, 4 SPI_NSS, 5 SPI_SCK, 6 SPI_MISO, 7 SPI_MOSI, 8 ENC_A, 9 ENC_B, 10 ENC_I, 11 SWDIO, 12 SWCLK, 13 SWITCH1/BKIN, 14 SWITCH2, 15 SWITCH3/AN, 16 SWITCH4, 17 AN_INPUT1, 18 AN_INPUT2, 19 AN_INPUT3, 20 12V_SIGNAL, 21 V_IN (15-50), 22 GND_SIGNAL, 23 GND_POWER, 24 PGND_D, 25 V_POWER, 26 V_POWER, 27 V_POWER, 28 MOTOR1, 29 MOTOR1, 30 MOTOR1, 31 MOTOR2, 32 MOTOR2, 33 MOTOR2, 34 MOTOR3, 35 MOTOR3, 36 MOTOR3, 37 GND_MOSFET, 38 GND_MOSFET, 39 GND_MOSFET, 40 12В_OUT, 41 5V_AUX, 42 ENC_HALL_VCC, 43 3V3_AUX, 44 CANH, 45 CANL, 46 RS485_A, 47 RS485_B
text: DEV

## MMCM_V2.1
designator DD?
Motor Driver; Manufacturer: Tarasoventerprise; PackageVersion: V1; Mounting Technology: Surface Mount; PackageDescription: 44-Pin Flat Pack, Body 40 x 20 mm, Pitch 2 mm; PartNumber: MMCM_V2.1
footprint MMCM
pins: 1 AN_INPUT1, 2 AN_INPUT2, 3 AN_INPUT3, 4 SWCLK, 5 SWDIO, 6 PGND, 7 PGND, 8 PGND, 9 PVDD, 10 PVDD, 11 PVDD, 12 PGND, 13 PGND, 14 MOTOR3, 15 MOTOR3, 16 MOTOR3, 17 MOTOR2, 18 MOTOR2, 19 MOTOR2, 20 MOTOR1, 21 MOTOR1, 22 MOTOR1, 23 PGND, 24 PGND, 25 PVDD, 26 PVDD, 27 PVDD, 28 PGND, 29 PGND, 30 PGND, 31 12V_POWER, 32 3.3V, 33 5V, 34 HALL1, 35 HALL2, 36 HALL3, 37 ENC_A, 38 ENC_B, 39 ENC_I, 40 SWITCH1, 41 SWITCH2, 42 SWITCH3, 43 RS485_A, 44 RS485_B
text: DEV

## MOSFET-N_D2PAK
designator S?
footprint D2PAK
pins: 1 G, 2 D, 3 S

## MOSFET-N_DPAK
designator S?
footprint DPAK
pins: 1 G, 3 S, 4 D

## MOSFET-N_PSO8
designator S?
footprint POWERSO8
pins: 1 2 3 S, 4 G, 5 6 7 8 D D

## MOSFET-N_TO247
designator S?
footprint TO247_H_NOHOLE
pins: D, G, S

## Motor connector
designator X?  Name: XXX  (hidden comment: *)
8 pin
footprint 52745-0897
pins: 1, 2, 3, 4, 5, 6, 7, 8
text: Конт.; Цепь; W1; W2; W3; H1; H2; H3; VCC Hall; GND

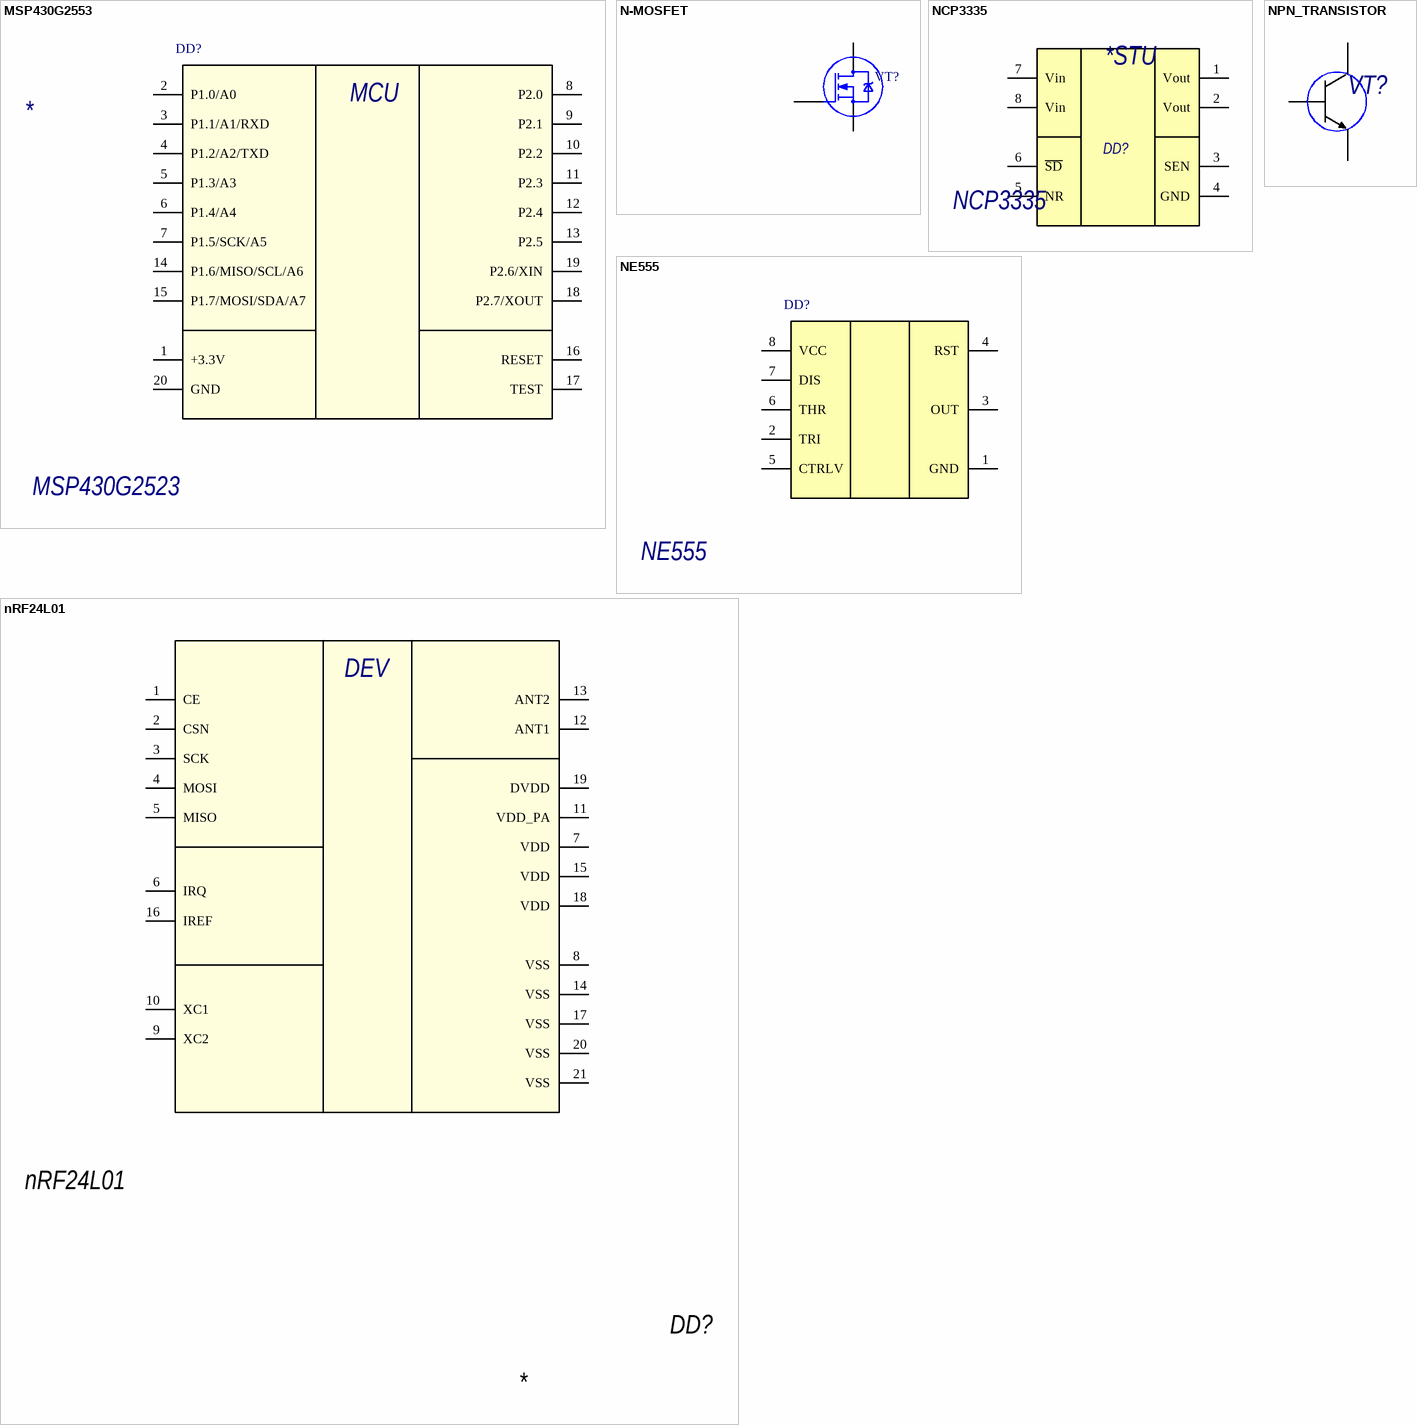
[diagram p19: symbols MSP430G2553 to nRF24L01]

## MSP430G2553
designator DD?  Name: MSP430G2523
микроконтроллер MSP430
pins: 1 +3.3V, 2 P1.0/A0, 3 P1.1/A1/RXD, 4 P1.2/A2/TXD, 5 P1.3/A3, 6 P1.4/A4, 7 P1.5/SCK/A5, 8 P2.0, 9 P2.1, 10 P2.2, 11 P2.3, 12 P2.4, 13 P2.5, 14 P1.6/MISO/SCL/A6, 15 P1.7/MOSI/SDA/A7, 16 RESET, 17 TEST, 18 P2.7/XOUT, 19 P2.6/XIN, 20 GND
text: MCU

## N-MOSFET
designator VT?
N-канальный MOSFET
footprint SOT23-3_A
footprint SOT23-3_H
pins: 1 G, 2 S, 3 D

## NCP3335
designator DD?
Линейный регулятор; Name: NCP3335
footprint Micro8 (TSOP, 8-Leads, Body 3,1x3,1mm (max), Pitch 0,65mm, IPC Medium Density)
pins: 1 Vout, 2 Vout, 3 SEN, 4 GND, 5 NR, 6 ~{SD}, 7 Vin, 8 Vin
text: *STU

## NE555
designator DD?
ПЗУ 1K SPI; Name: NE555
footprint SO8_A
footprint SO8_H
footprint SO8_H
footprint SO8_A
pins: 1 GND, 2 TRI, 3 OUT, 4 RST, 5 CTRLV, 6 THR, 7 DIS, 8 VCC

## NPN_TRANSISTOR
designator VT?
Name: Name; Value: Value
pins: 1 B, 2 C, 3 E

## nRF24L01
designator DD?  Name: nRF24L01
footprint QFN20_M (QFN, 20-Leads, Body 4x4mm, Pitch 0.5mm, Thermal Pad 2.3x2.3mm, IPC Low Density)
pins: 1 CE, 2 CSN, 3 SCK, 4 MOSI, 5 MISO, 6 IRQ, 7 VDD, 8 VSS, 9 XC2, 10 XC1, 11 VDD_PA, 12 ANT1, 13 ANT2, 14 VSS, 15 VDD, 16 IREF, 17 VSS, 18 VDD, 19 DVDD, 20 VSS, 21 VSS
text: DEV

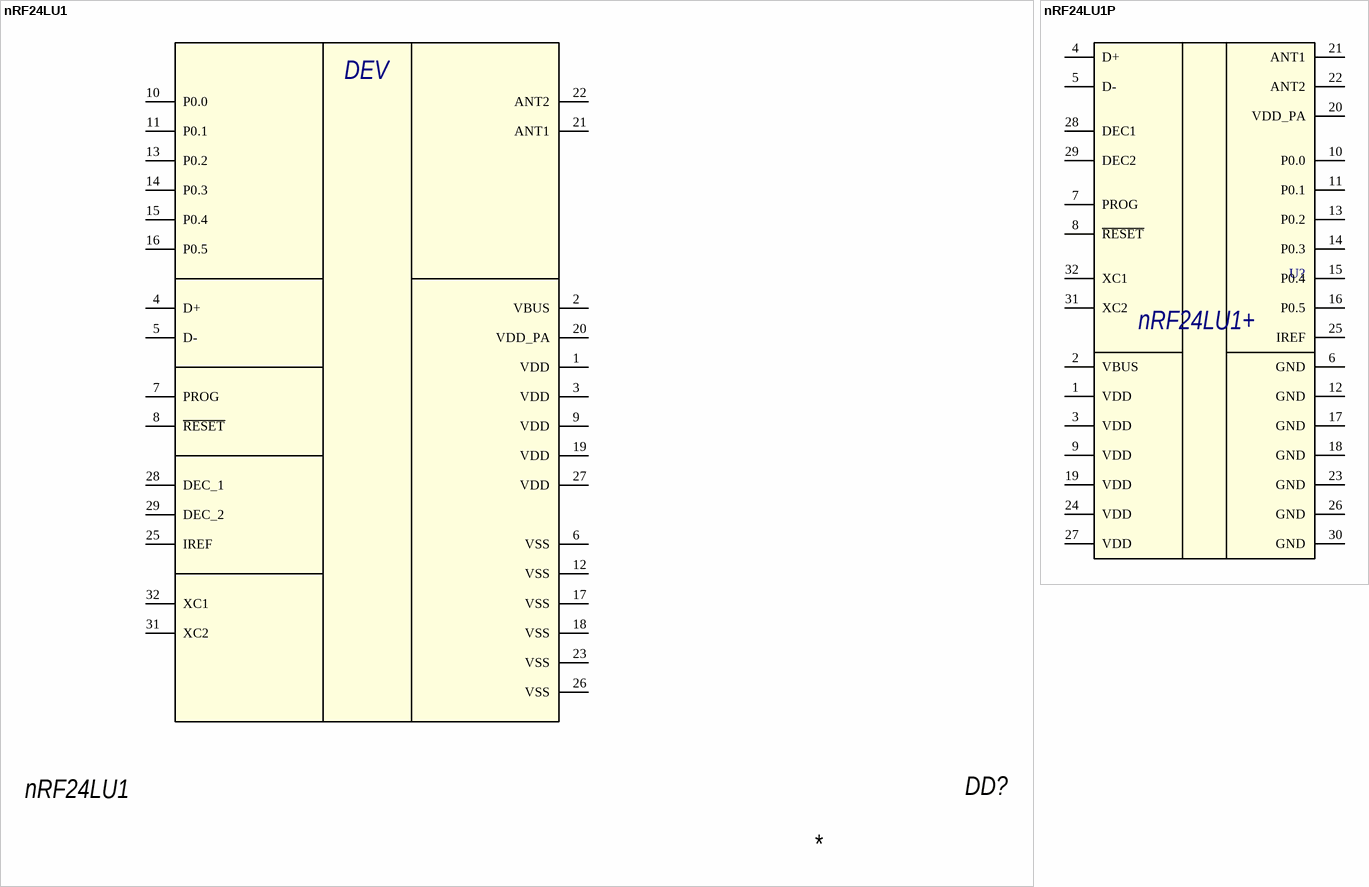
[diagram p20: symbols nRF24LU1 to nRF24LU1P]

## nRF24LU1
designator DD?  Name: nRF24LU1
Приемопередатчик
footprint QFN32L/5x5
pins: 1 VDD, 2 VBUS, 3 VDD, 4 D+, 5 D-, 6 VSS, 7 PROG, 8 ~{RESET}, 9 VDD, 10 P0.0, 11 P0.1, 12 VSS, 13 P0.2, 14 P0.3, 15 P0.4, 16 P0.5, 17 VSS, 18 VSS, 19 VDD, 20 VDD_PA, 21 ANT1, 22 ANT2, 23 VSS, 25 IREF, 26 VSS, 27 VDD, 28 DEC_1, 29 DEC_2, 31 XC2, 32 XC1
text: DEV

## nRF24LU1P
designator U?, comment nRF24LU1+
2.4GHz Transceiver with USB
footprint QFN32L/5x5
pins: 1 VDD (power) "Power supply (+3.3V DC) for de-coupling purposes", 2 VBUS (power) "USB power connection", 3 VDD (power) "Power supply (+3.3V DC) for de-coupling purposes", 4 D+ (power) "USB data +", 5 D- (power) "USB data -", 6 GND (power) "Ground (0V)", 7 PROG (power) "Reserved for programming the flash", 8 ~{RESET} (power) "Reset for microcontroller, active low", 9 VDD (power) "Power supply (+3.3V DC) for de-coupling purposes", 10 P0.0 (power) "General purpose data Port 0, bit 0", 11 P0.1 (power) "General purpose data Port 0, bit 1", 12 GND (power) "Ground (0V)", 13 P0.2 (power) "General purpose data Port 0, bit 2", 14 P0.3 (power) "General purpose data Port 0, bit 3", 15 P0.4 (power) "General purpose data Port 0, bit 4", 16 P0.5 (power) "General purpose data Port 0, bit 5", 17 GND (power) "Ground (0V)", 18 GND (power), 19 VDD (power) "Power supply (+3.3V DC) for de-coupling purposes", 20 VDD_PA (power) "Power Supply (+1.8V) to Power Amplifier", 21 ANT1 (power) "Antenna connection 1", 22 ANT2 (power) "Antenna connection 2", 23 GND (power) "Ground (0V)", 24 VDD (power) "Power supply (+3.3V DC) for de-coupling purposes", 25 IREF (power) "Reference current", 26 GND (power) "Ground (0V)", 27 VDD (power) "Power supply (+3.3V DC) for de-coupling purposes", 28 DEC1 (power) "Positive Digital Supply output for de-coupling purposes", 29 DEC2 (power) "Positive Digital Supply output for de-coupling purposes", 30 GND (power) "Ground (0V)", 31 XC2 (power) "Crystal connection 2", 32 XC1 (power) "Crystal connection 1"

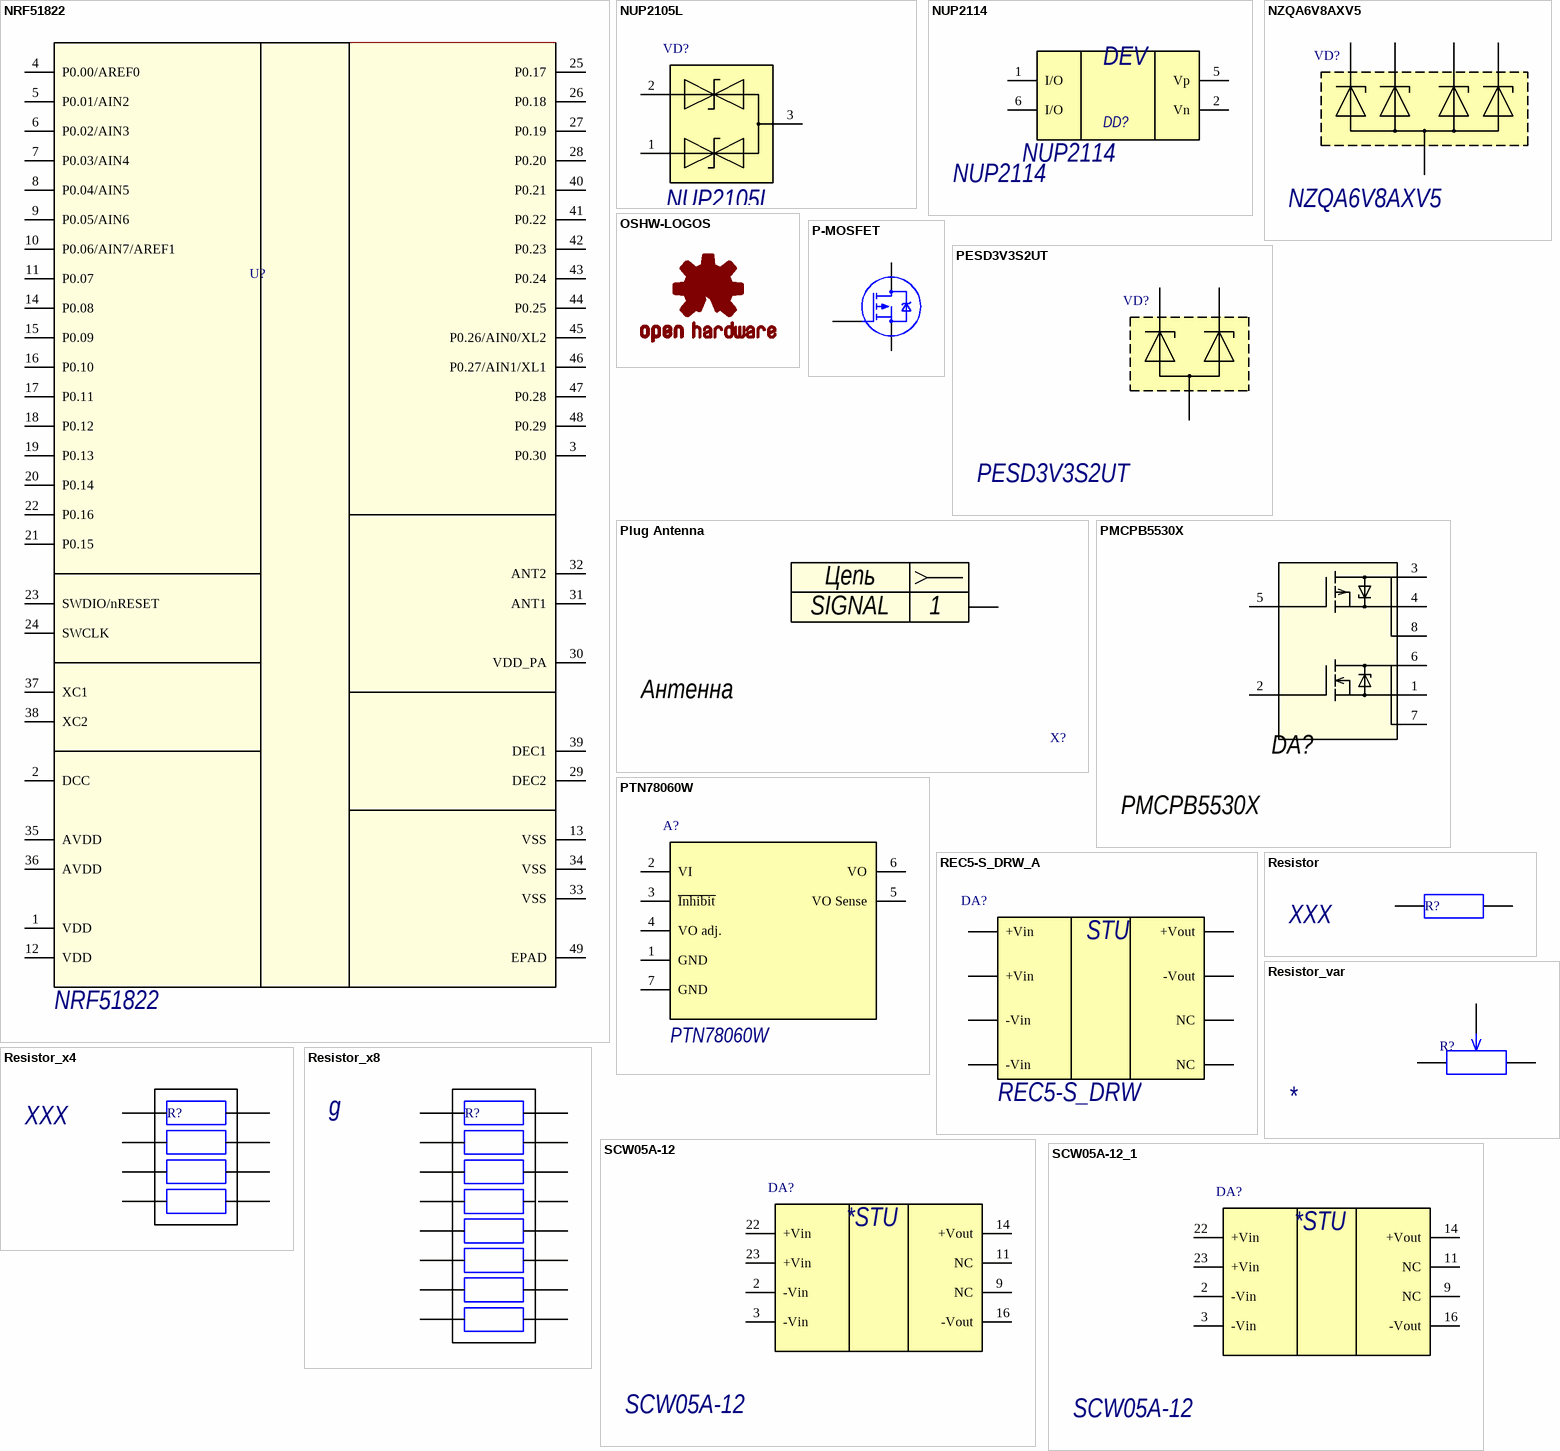
[diagram p21: symbols NRF51822 to SCW05A-12_1]